# Altium schematic symbol library IC.SchLib: 163 symbols (part 1 of 2)
Pins are listed as number, name and electrical type; pins without a type are passive.

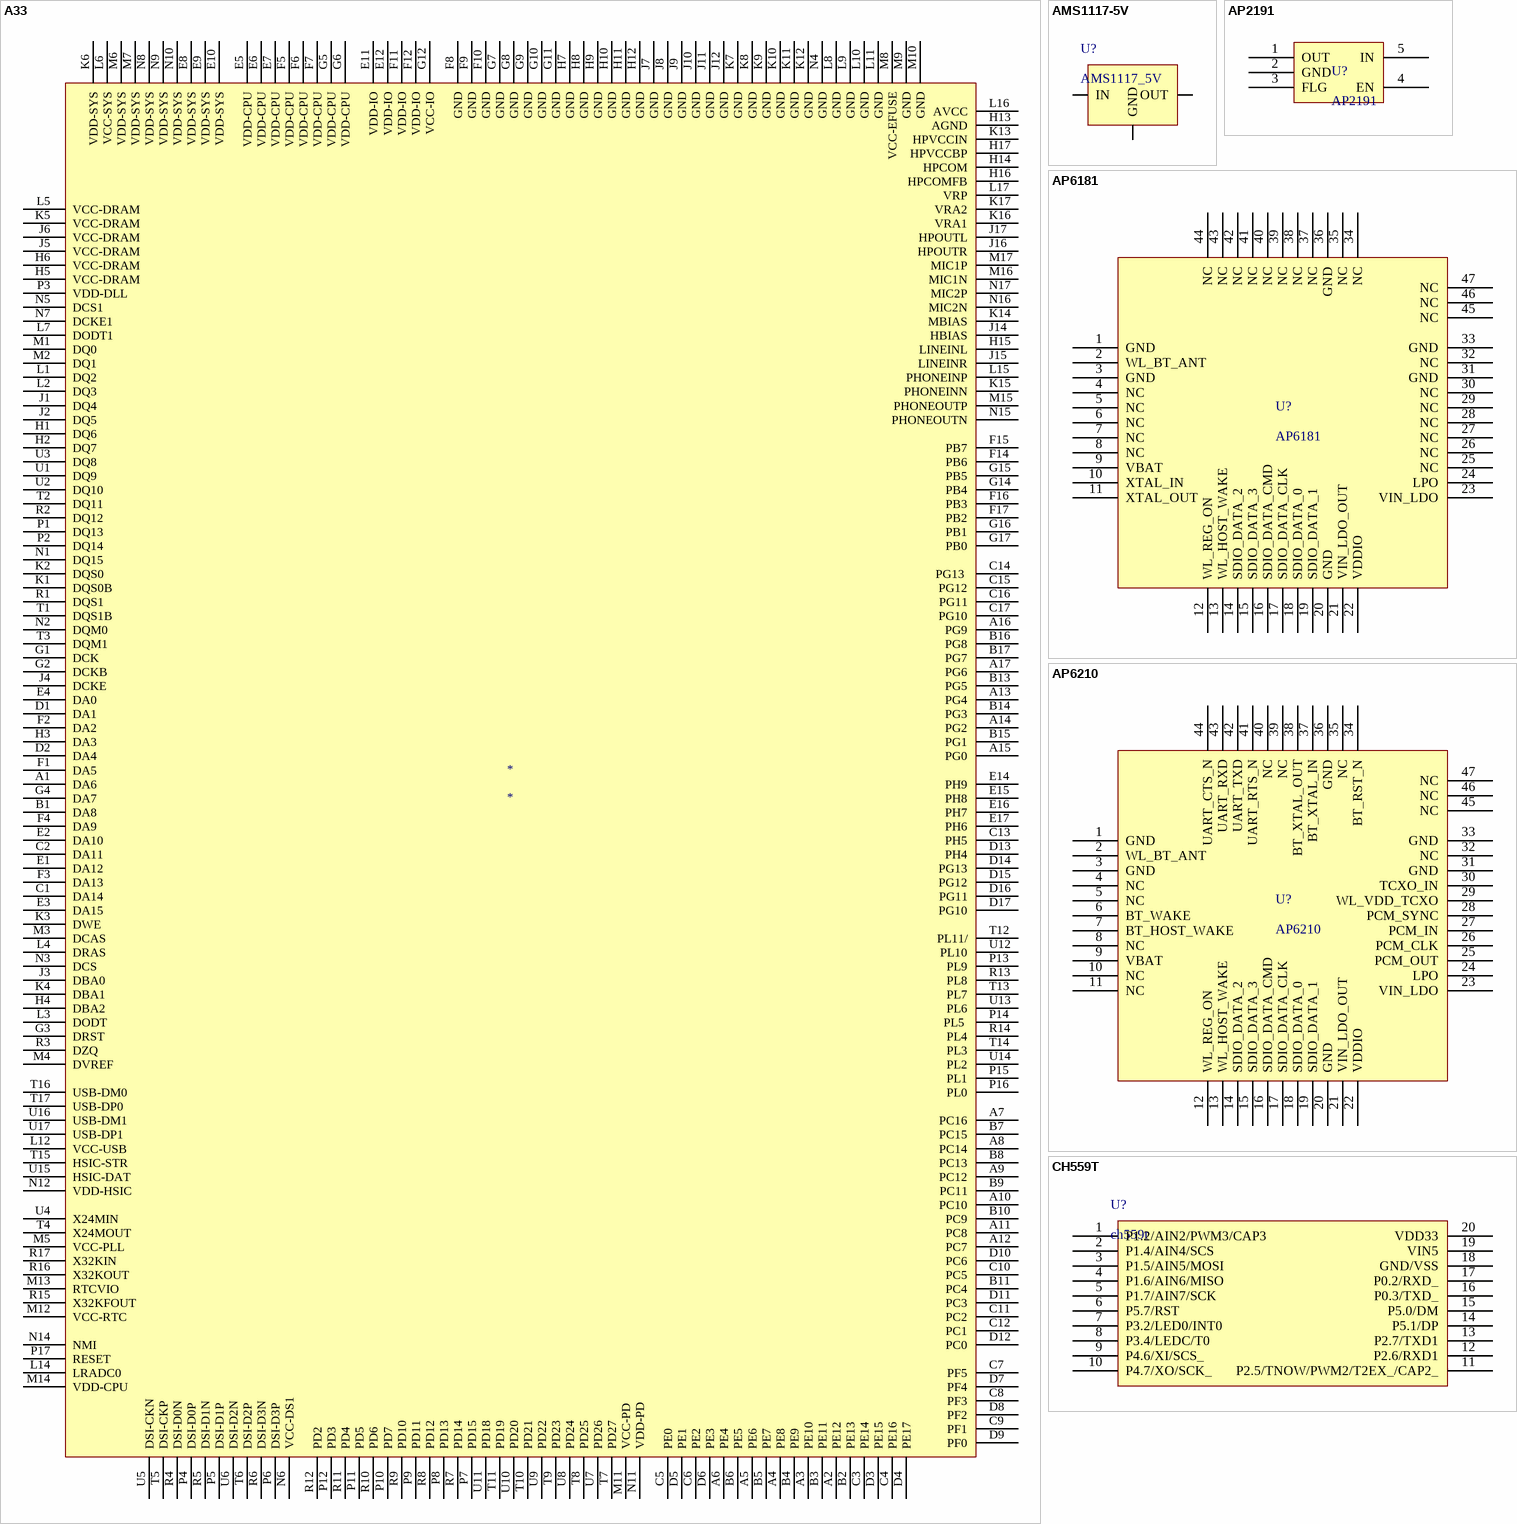
[diagram p0: symbols A33 to CH559T]

## A33
designator *
pins: A1 DA6, A2 PE12, A3 PE10, A4 PE8, A5 PE6, A6 PE4, A7 PC16, A8 PC14, A9 PC12, A10 PC10, A11 PC8, A12 PC7, A13 PG4, A14 PG2, A15 PG0, A16 PG9, A17 PG6, B1 DA8, B2 PE13, B3 PE11, B4 PE9, B5 PE7, B6 PE5, B7 PC15, B8 PC13, B9 PC11, B10 PC9, B11 PC4, B13 PG5, B14 PG3, B15 PG1, B16 PG8, B17 PG7, C1 DA14, C2 DA11, C3 PE14, C4 PE16, C5 PE0, C6 PE2, C7 PF5, C8 PF3, C9 PF1, C10 PC5, C11 PC2, C12 PC1, C13 PH5, C14 PG13 , C15 PG12, C16 PG11, C17 PG10, D1 DA1, D2 DA4, D3 PE15, D4 PE17, D5 PE1, D6 PE3, D7 PF4, D8 PF2, D9 PF0, D10 PC6, D11 PC3, D12 PC0, D13 PH4, D14 PG13, D15 PG12, D16 PG11, D17 PG10, E1 DA12, E2 DA10, E3 DA15, E4 DA0, E5 VDD-CPU, E6 VDD-CPU, E7 VDD-CPU, E8 VDD-SYS, E9 VDD-SYS, E10 VDD-SYS, E11 VDD-IO, E12 VDD-IO, E14 PH9, E15 PH8, E16 PH7, E17 PH6, F1 DA5, F2 DA2, F3 DA13, F4 DA9, F5 VDD-CPU, F6 VDD-CPU, F7 VDD-CPU, F8 GND, F9 GND, F10 GND, F11 VDD-IO, F12 VDD-IO, F14 PB6, F15 PB7, F16 PB3, F17 PB2, G1 DCK, G2 DCKB, G3 DRST, G4 DA7, G5 VDD-CPU, G6 VDD-CPU, G7 GND, G8 GND, G9 GND, G10 GND, G11 GND, G12 VCC-IO, G14 PB4, G15 PB5, G16 PB1, G17 PB0, H1 DQ6, H2 DQ7, H3 DA3, H4 DBA2, H5 VCC-DRAM, H6 VCC-DRAM, H7 GND, H8 GND, H9 GND, H10 GND, H11 GND, H12 GND, H13 AGND, H14 HPCOM, H15 LINEINL, H16 HPCOMFB, H17 HPVCCBP, J1 DQ4, J2 DQ5, J3 DBA0, J4 DCKE, J5 VCC-DRAM, J6 VCC-DRAM, J7 GND, J8 GND, J9 GND, J10 GND, J11 GND, J12 GND, J14 HBIAS, J15 LINEINR, J16 HPOUTR, J17 HPOUTL, K1 DQS0B, K2 DQS0, K3 DWE, K4 DBA1, K5 VCC-DRAM, K6 VDD-SYS, K7 GND, K8 GND, K9 GND, K10 GND, K11 GND, K12 GND, K13 HPVCCIN, K14 MBIAS, K15 PHONEINN, K16 VRA1, K17 VRA2, L1 DQ2, L2 DQ3, L3 DODT, L4 DRAS, L5 VCC-DRAM, L6 VCC-SYS, L7 DODT1, L8 GND, L9 GND, L10 GND, L11 GND, L12 VCC-USB, L14 LRADC0, L15 PHONEINP, L16 AVCC, L17 VRP, M1 DQ0, M2 DQ1, M3 DCAS, M4 DVREF, M5 VCC-PLL, M6 VDD-SYS, M7 VDD-SYS, M8 VCC-EFUSE, M9 GND, M10 GND, M11 VCC-PD, M12 VCC-RTC, M13 RTCVIO, M14 VDD-CPU, M15 PHONEOUTP, M16 MIC1N, M17 MIC1P, N1 DQ15, N2 DQM0, N3 DCS, N4 GND, N5 DCS1, N6 VCC-DS1, N7 DCKE1, N8 VDD-SYS, N9 VDD-SYS, N10 VDD-SYS, N11 VDD-PD, N12 VDD-HSIC, N14 NMI, N15 PHONEOUTN, N16 MIC2N, N17 MIC2P, P1 DQ13, P2 DQ14, P3 VDD-DLL, P4 DSI-D0P, P5 DSI-D1P, P6 DSI-D3P, P7 PD15, P8 PD13, P9 PD11, P10 PD7, P11 PD5, P12 PD3, P13 PL9, P14 PL5 , P15 PL1, P16 PL0, P17 RESET, R1 DQS1, R2 DQ12, R3 DZQ, R4 DSI-D0N, R5 DSI-D1N, R6 DSI-D3N, R7 PD14, R8 PD12, R9 PD10, R10 PD6, R11 PD4, R12 PD2, R13 PL8, R14 PL4, R15 X32KFOUT, R16 X32KOUT, R17 X32KIN, T1 DQS1B, T2 DQ11, T3 DQM1, T4 X24MOUT, T5 DSI-CKP, T6 DSI-D2P, T7 PD27, T8 PD25, T9 PD23, T10 PD21, T11 PD19, T12 PL11/, T13 PL7, T14 PL3, T15 HSIC-STR, T16 USB-DM0, T17 USB-DP0, U1 DQ9, U2 DQ10, U3 DQ8, U4 X24MIN, U5 DSI-CKN, U6 DSI-D2N, U7 PD26, U8 PD24, U9 PD22, U10 PD20, U11 PD18, U12 PL10, U13 PL6, U14 PL2, U15 HSIC-DAT, U16 USB-DM1, U17 USB-DP1

## AMS1117-5V
designator U?, comment AMS1117_5V
footprint SOT-223
pins: 1 GND, 2 OUT, 3 IN

## AP2191
designator U?
footprint U-SOT-23-5
pins: 1 OUT (power), 2 GND (power), 3 FLG (power), 4 EN (power), 5 IN (power)

## AP6181
designator U?
pins: 1 GND, 2 WL_BT_ANT, 3 GND, 4 NC, 5 NC, 6 NC, 7 NC, 8 NC, 9 VBAT, 10 XTAL_IN, 11 XTAL_OUT, 12 WL_REG_ON, 13 WL_HOST_WAKE, 14 SDIO_DATA_2, 15 SDIO_DATA_3, 16 SDIO_DATA_CMD, 17 SDIO_DATA_CLK, 18 SDIO_DATA_0, 19 SDIO_DATA_1, 20 GND, 21 VIN_LDO_OUT, 22 VDDIO, 23 VIN_LDO, 24 LPO, 25 NC, 26 NC, 27 NC, 28 NC, 29 NC, 30 NC, 31 GND, 32 NC, 33 GND, 34 NC, 35 NC, 36 GND, 37 NC, 38 NC, 39 NC, 40 NC, 41 NC, 42 NC, 43 NC, 44 NC, 45 NC, 46 NC, 47 NC

## AP6210
designator U?
footprint AP6210
pins: 1 GND, 2 WL_BT_ANT, 3 GND, 4 NC, 5 NC, 6 BT_WAKE, 7 BT_HOST_WAKE, 8 NC, 9 VBAT, 10 NC, 11 NC, 12 WL_REG_ON, 13 WL_HOST_WAKE, 14 SDIO_DATA_2, 15 SDIO_DATA_3, 16 SDIO_DATA_CMD, 17 SDIO_DATA_CLK, 18 SDIO_DATA_0, 19 SDIO_DATA_1, 20 GND, 21 VIN_LDO_OUT, 22 VDDIO, 23 VIN_LDO, 24 LPO, 25 PCM_OUT, 26 PCM_CLK, 27 PCM_IN, 28 PCM_SYNC, 29 WL_VDD_TCXO, 30 TCXO_IN, 31 GND, 32 NC, 33 GND, 34 BT_RST_N, 35 NC, 36 GND, 37 BT_XTAL_IN, 38 BT_XTAL_OUT, 39 NC, 40 NC, 41 UART_RTS_N, 42 UART_TXD, 43 UART_RXD, 44 UART_CTS_N, 45 NC, 46 NC, 47 NC

## CH559T
designator U?, comment ch559t
CH559T-20pin
footprint SSOP-20 (CH559T)
pins: 1 P1.2/AIN2/PWM3/CAP3, 2 P1.4/AIN4/SCS, 3 P1.5/AIN5/MOSI, 4 P1.6/AIN6/MISO, 5 P1.7/AIN7/SCK, 6 P5.7/RST, 7 P3.2/LED0/INT0, 8 P3.4/LEDC/T0, 9 P4.6/XI/SCS_, 10 P4.7/XO/SCK_, 11 P2.5/TNOW/PWM2/T2EX_/CAP2_, 12 P2.6/RXD1, 13 P2.7/TXD1, 14 P5.1/DP, 15 P5.0/DM, 16 P0.3/TXD_, 17 P0.2/RXD_, 18 GND/VSS, 19 VIN5, 20 VDD33

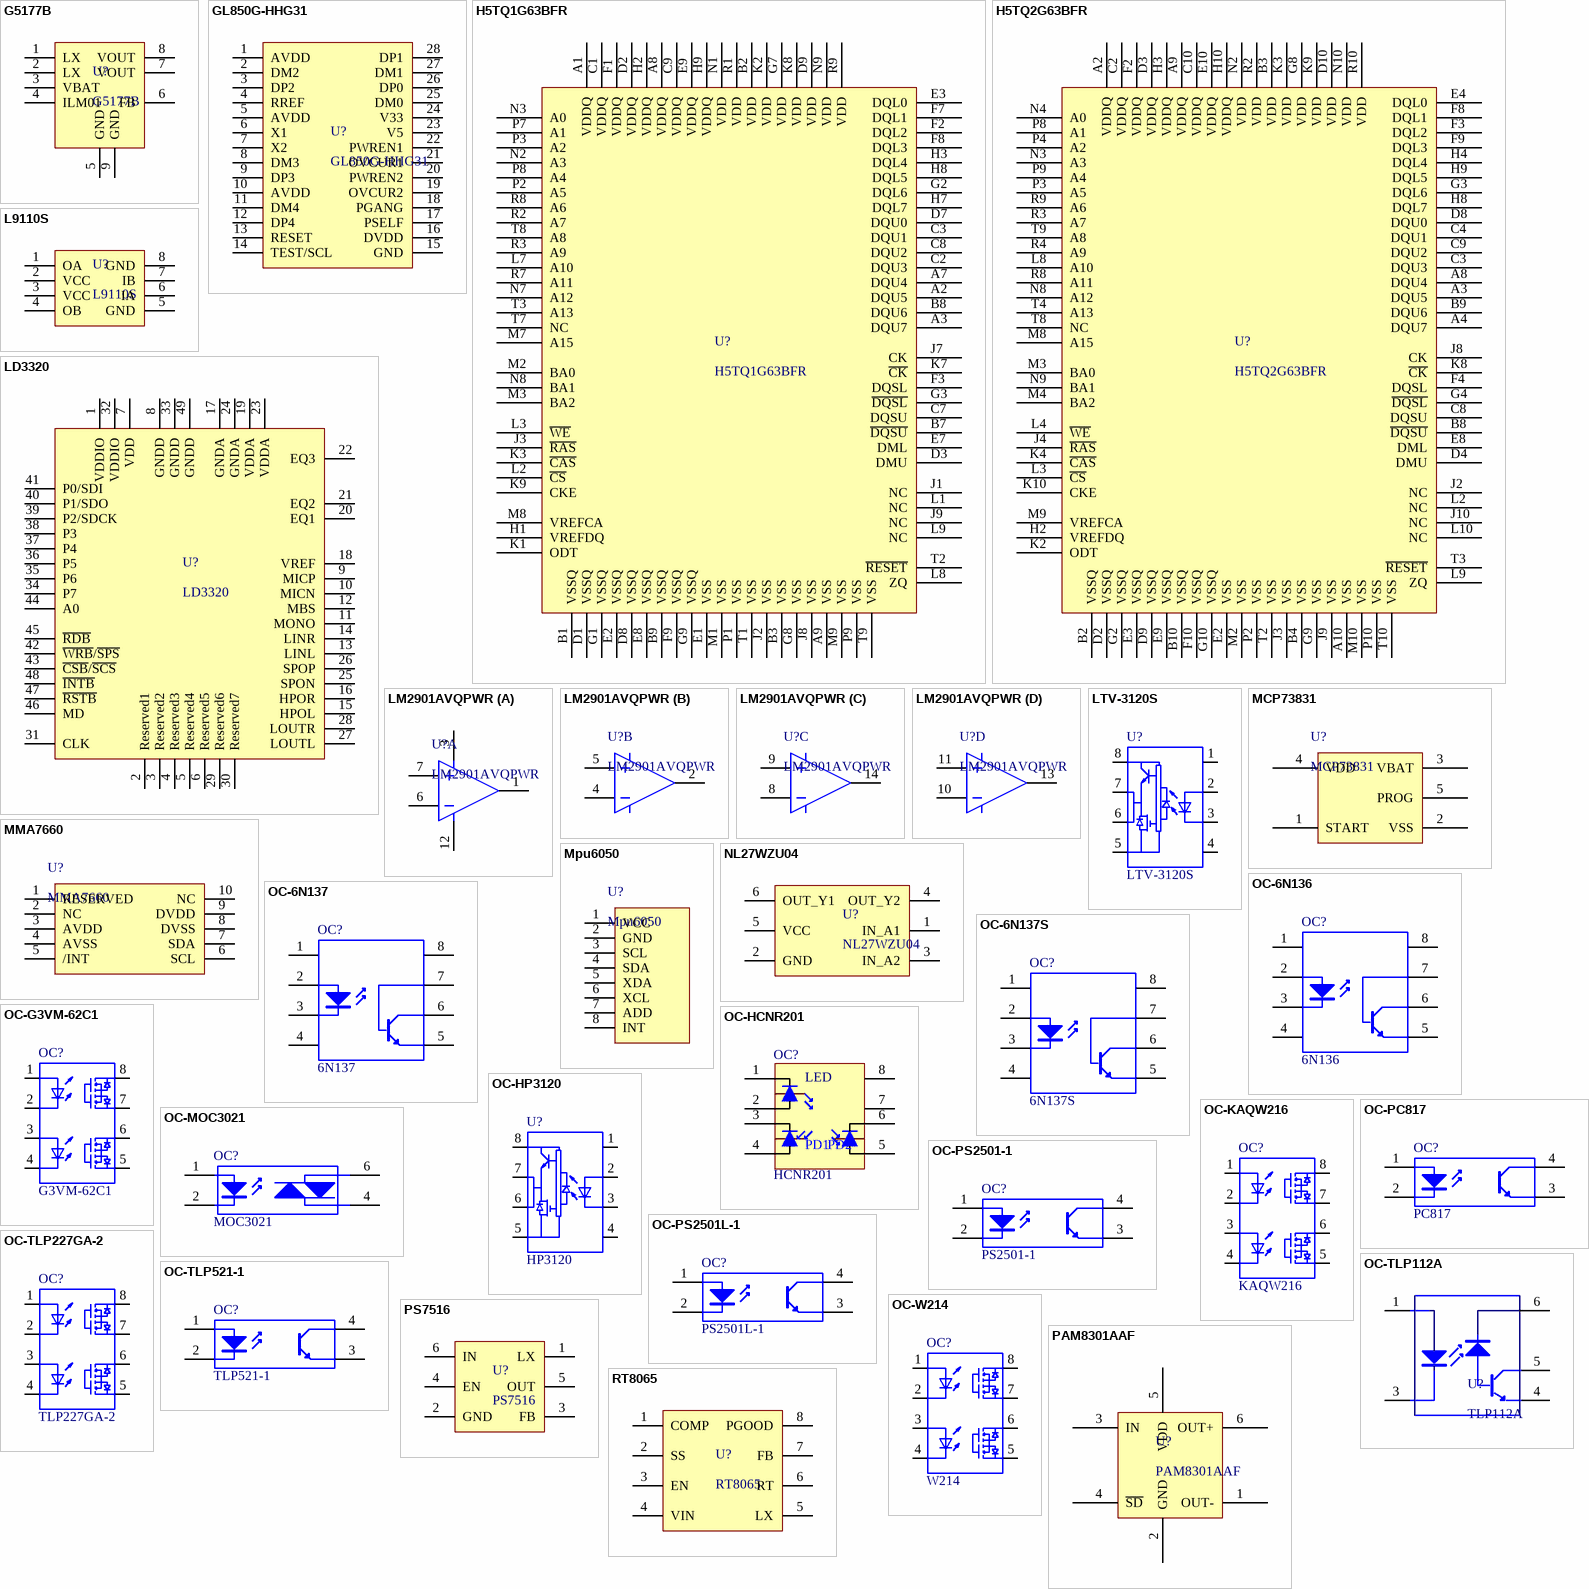
[diagram p1: symbols G5177B to RT8065]

## G5177B
designator U?
footprint U-SOP8(FD) (Footprint not found)
pins: 1 LX, 2 LX, 3 VBAT, 4 ILM01, 5 GND, 6 FB, 7 VOUT, 8 VOUT, 9 GND

## GL850G-HHG31
designator U?
pins: 1 AVDD, 2 DM2, 3 DP2, 4 RREF, 5 AVDD, 6 X1, 7 X2, 8 DM3, 9 DP3, 10 AVDD, 11 DM4, 12 DP4, 13 RESET, 14 TEST/SCL, 15 GND, 16 DVDD, 17 PSELF, 18 PGANG, 19 OVCUR2, 20 PWREN2, 21 OVCUR1, 22 PWREN1, 23 V5, 24 V33, 25 DM0, 26 DP0, 27 DM1, 28 DP1

## H5TQ1G63BFR
designator U?
pins: A1 VDDQ, A2 DQU5, A3 DQU7, A7 DQU4, A8 VDDQ, A9 VSS, B1 VSSQ, B2 VDD, B3 VSS, B7 ~{DQSU}, B8 DQU6, B9 VSSQ, C1 VDDQ, C2 DQU3, C3 DQU1, C7 DQSU, C8 DQU2, C9 VDDQ, D1 VSSQ, D2 VDDQ, D3 DMU, D7 DQU0, D8 VSSQ, D9 VDD, E1 VSS, E2 VSSQ, E3 DQL0, E7 DML, E8 VSSQ, E9 VDDQ, F1 VDDQ, F2 DQL2, F3 DQSL, F7 DQL1, F8 DQL3, F9 VSSQ, G1 VSSQ, G2 DQL6, G3 ~{DQSL}, G7 VDD, G8 VSS, G9 VSSQ, H1 VREFDQ, H2 VDDQ, H3 DQL4, H7 DQL7, H8 DQL5, H9 VDDQ, J1 NC, J2 VSS, J3 ~{RAS}, J7 CK, J8 VSS, J9 NC, K1 ODT, K2 VDD, K3 ~{CAS}, K7 ~{CK}, K8 VDD, K9 CKE, L1 NC, L2 ~{CS}, L3 ~{WE}, L7 A10, L8 ZQ, L9 NC, M1 VSS, M2 BA0, M3 BA2, M7 A15, M8 VREFCA, M9 VSS, N1 VDD, N2 A3, N3 A0, N7 A12, N8 BA1, N9 VDD, P1 VSS, P2 A5, P3 A2, P7 A1, P8 A4, P9 VSS, R1 VDD, R2 A7, R3 A9, R7 A11, R8 A6, R9 VDD, T1 VSS, T2 ~{RESET}, T3 A13, T7 NC, T8 A8, T9 VSS

## H5TQ2G63BFR
designator U?
pins: A2 VDDQ, A3 DQU5, A4 DQU7, A8 DQU4, A9 VDDQ, A10 VSS, B2 VSSQ, B3 VDD, B4 VSS, B8 ~{DQSU}, B9 DQU6, B10 VSSQ, C2 VDDQ, C3 DQU3, C4 DQU1, C8 DQSU, C9 DQU2, C10 VDDQ, D2 VSSQ, D3 VDDQ, D4 DMU, D8 DQU0, D9 VSSQ, D10 VDD, E2 VSS, E3 VSSQ, E4 DQL0, E8 DML, E9 VSSQ, E10 VDDQ, F2 VDDQ, F3 DQL2, F4 DQSL, F8 DQL1, F9 DQL3, F10 VSSQ, G2 VSSQ, G3 DQL6, G4 ~{DQSL}, G8 VDD, G9 VSS, G10 VSSQ, H2 VREFDQ, H3 VDDQ, H4 DQL4, H8 DQL7, H9 DQL5, H10 VDDQ, J2 NC, J3 VSS, J4 ~{RAS}, J8 CK, J9 VSS, J10 NC, K2 ODT, K3 VDD, K4 ~{CAS}, K8 ~{CK}, K9 VDD, K10 CKE, L2 NC, L3 ~{CS}, L4 ~{WE}, L8 A10, L9 ZQ, L10 NC, M2 VSS, M3 BA0, M4 BA2, M8 A15, M9 VREFCA, M10 VSS, N2 VDD, N3 A3, N4 A0, N8 A12, N9 BA1, N10 VDD, P2 VSS, P3 A5, P4 A2, P8 A1, P9 A4, P10 VSS, R2 VDD, R3 A7, R4 A9, R8 A11, R9 A6, R10 VDD, T2 VSS, T3 ~{RESET}, T4 A13, T8 NC, T9 A8, T10 VSS

## L9110S
designator U?
footprint U-SOP-8N
pins: 1 OA, 2 VCC, 3 VCC, 4 OB, 5 GND, 6 IA, 7 IB, 8 GND

## LD3320
designator U?
footprint U-QFN48
pins: 1 VDDIO, 2 Reserved1, 3 Reserved2, 4 Reserved3, 5 Reserved4, 6 Reserved5, 7 VDD, 8 GNDD, 9 MICP, 10 MICN, 11 MONO, 12 MBS, 13 LINL, 14 LINR, 15 HPOL, 16 HPOR, 17 GNDA, 18 VREF, 19 VDDA, 20 EQ1, 21 EQ2, 22 EQ3, 23 VDDA, 24 GNDA, 25 SPON, 26 SPOP, 27 LOUTL, 28 LOUTR, 29 Reserved6, 30 Reserved7, 31 CLK, 32 VDDIO, 33 GNDD, 34 P7, 35 P6, 36 P5, 37 P4, 38 P3, 39 P2/SDCK, 40 P1/SDO, 41 P0/SDI, 42 ~{WRB}/~{SPS}, 43 ~{CSB}/~{SCS}, 44 A0, 45 ~{RDB}, 46 MD, 47 ~{RSTB}, 48 ~{INTB}, 49 GNDD

## LM2901AVQPWR
designator U?
生产商: *; 规格型号: *; 供应商: *; 备注: *
footprint U-TSSOP14
part A pins: 1 1OUT, 3 VCC, 6 1IN-, 7 1IN+, 12 GND
part B pins: 2 2OUT, 4 2IN-, 5 2IN+
part C pins: 8 3IN-, 9 3IN+, 14 3OUT
part D pins: 10 4IN-, 11 4IN+, 13 4OUT

## LTV-3120S
designator U?
光耦-光耦; 生产: *; 供应: *; 规格: LTV-3120S
footprint SMD-8 (Footprint not found)
pins: 1, 2, 3, 4, 5, 6, 7, 8
1 alternate drawing of the same symbol

## MCP73831
designator U?
charge IC
footprint SOT23-5N (SOT23, 5-Leads, Body 2.90x2.70mm, Pitch 0.95mm, IPC Medium Density)
pins: 1 START, 2 VSS, 3 VBAT, 4 VDD, 5 PROG

## MMA7660
designator U?
IC-SENSOR-MMA7660FCT
pins: 1 RESERVED, 2 NC, 3 AVDD, 4 AVSS, 5 /INT, 6 SCL, 7 SDA, 8 DVSS, 9 DVDD, 10 NC

## Mpu6050
designator U?
pins: 1 VCC, 2 GND, 3 SCL, 4 SDA, 5 XDA, 6 XCL, 7 ADD, 8 INT

## NL27WZU04
designator U?
footprint U-TSOP-6
pins: 1 IN_A1, 2 GND, 3 IN_A2, 4 OUT_Y2, 5 VCC, 6 OUT_Y1

## OC-6N136
designator OC?, comment 6N136
光耦-光耦; 货品: 363005; 规格: 6N136; 备注: *; 生产: *; 供应: *
footprint OC-DIP-8N (OC-DIP8)
pins: 1, 2, 3, 4, 5, 6, 7, 8

## OC-6N137
designator OC?, comment 6N137
光耦-光耦; 货品: 363006; 规格: 6N137; 备注: *; 生产: *; 供应: *
footprint OC-DIP-8N (OC-DIP8)
pins: 1, 2, 3, 4, 5, 6, 7, 8

## OC-6N137S
designator OC?, comment 6N137S
光耦-光耦; 货品: 363012; 备注: *; 生产: *; 供应: *
footprint OC-LBT-8N (Lead Bending Type)
pins: 1, 2, 3, 4, 5, 6, 7, 8

## OC-G3VM-62C1
designator OC?, comment G3VM-62C1
光耦-光耦继电器; 货品: 342004; 备注: *; 规格: G3VM-62C1; 生产: *; 供应: *
footprint OC-DIP-8N (OC-DIP8)
pins: 1, 2, 3, 4, 5, 6, 7, 8
1 alternate drawing of the same symbol

## OC-HCNR201
designator OC?, comment HCNR201
光耦-线性光耦; 货品: 363002; 备注: *; 生产: *; 供应: *; 规格: HCNR201
footprint OC-DIP-8W (OC-DIP8/W)
pins: 1, 2, 3, 4, 5, 6, 7, 8
text: LED; PD1; PD2

## OC-HP3120
designator U?, comment HP3120
光耦-光耦; 货品: 363001; 生产: *; 供应: *; 规格: HP3120
footprint OC-DIP-8N (OC-DIP8)
pins: 1, 2, 3, 4, 5, 6, 7, 8
1 alternate drawing of the same symbol

## OC-KAQW216
designator OC?, comment KAQW216
光耦-光耦继电器; 货品: 362027; 生产: *; 备注: *; 规格: KAQW216; 供应: *
footprint OC-DIP-8N (OC-DIP8)
pins: 1, 2, 3, 4, 5, 6, 7, 8
1 alternate drawing of the same symbol

## OC-MOC3021
designator OC?, comment MOC3021
光耦-光耦; 备注: *; 供应: *; 生产: *; 规格: MOC3021
footprint OC-DIP-6N (OC-DIP6)
pins: 1 A, 2 K, 4, 6

## OC-PC817
designator OC?, comment PC817
光耦-光耦; 货品: 342011; 备注: *; 供应: *; 生产: *
footprint OC-DIP-4N (OC-DIP4)
pins: 1 A, 2 K, 3 E, 4 C

## OC-PS2501-1
designator OC?, comment PS2501-1
光耦-光耦; 货品: 363007; 备注: *; 供应: *; 生产: *; 规格: PS2501-1
footprint OC-DIP-4N (OC-DIP4)
pins: 1 A, 2 K, 3 E, 4 C

## OC-PS2501L-1
designator OC?, comment PS2501L-1
光耦-光耦; 货品: 363009; 备注: *; 生产: *; 供应: *
footprint OC-LBT-4N (Lead Bending Type)
pins: 1 A, 2 K, 3 E, 4 C

## OC-TLP112A
designator U?, comment TLP112A
光耦-高速光耦; 货品: 341025; 备注: *; 供应: *; 规格: TLP112A; 生产: *
footprint OC-TO-5
pins: 1 A, 3 K, 4 E, 5 C, 6 5

## OC-TLP227GA-2
designator OC?, comment TLP227GA-2
光耦-光耦继电器; 货品: 363008; 生产: *; 备注: *; 规格: TLP227GA-2; 供应: *
footprint OC-DIP-8N (OC-DIP8)
footprint OC-DIP-8N - 9100SIM (OC-DIP8)
pins: 1, 2, 3, 4, 5, 6, 7, 8
1 alternate drawing of the same symbol

## OC-TLP521-1
designator OC?, comment TLP521-1
光耦-光耦; 货品: 363003; 备注: *; 规格: TLP521-1; 生产: *; 供应: *
footprint OC-DIP-4N (OC-DIP4)
pins: 1 A, 2 K, 3 E, 4 C

## OC-W214
designator OC?, comment W214
光耦-光耦继电器; 货品: 363004; 生产: *; 备注: *; 规格: W214; 供应: *
footprint OC-DIP-8N (OC-DIP8)
pins: 1, 2, 3, 4, 5, 6, 7, 8
1 alternate drawing of the same symbol

## PAM8301AAF
designator U?
footprint U-TSOT26
pins: 1 OUT-, 2 GND, 3 IN, 4 ~{SD}, 5 VDD, 6 OUT+

## PS7516
designator U?
footprint U-SOT-23-6
pins: 1 LX, 2 GND, 3 FB, 4 EN, 5 OUT, 6 IN

## RT8065
designator U?
footprint SOP-8 (Footprint not found)
footprint U-SOP-8N
pins: 1 COMP, 2 SS, 3 EN, 4 VIN, 5 LX, 6 RT, 7 FB, 8 PGOOD

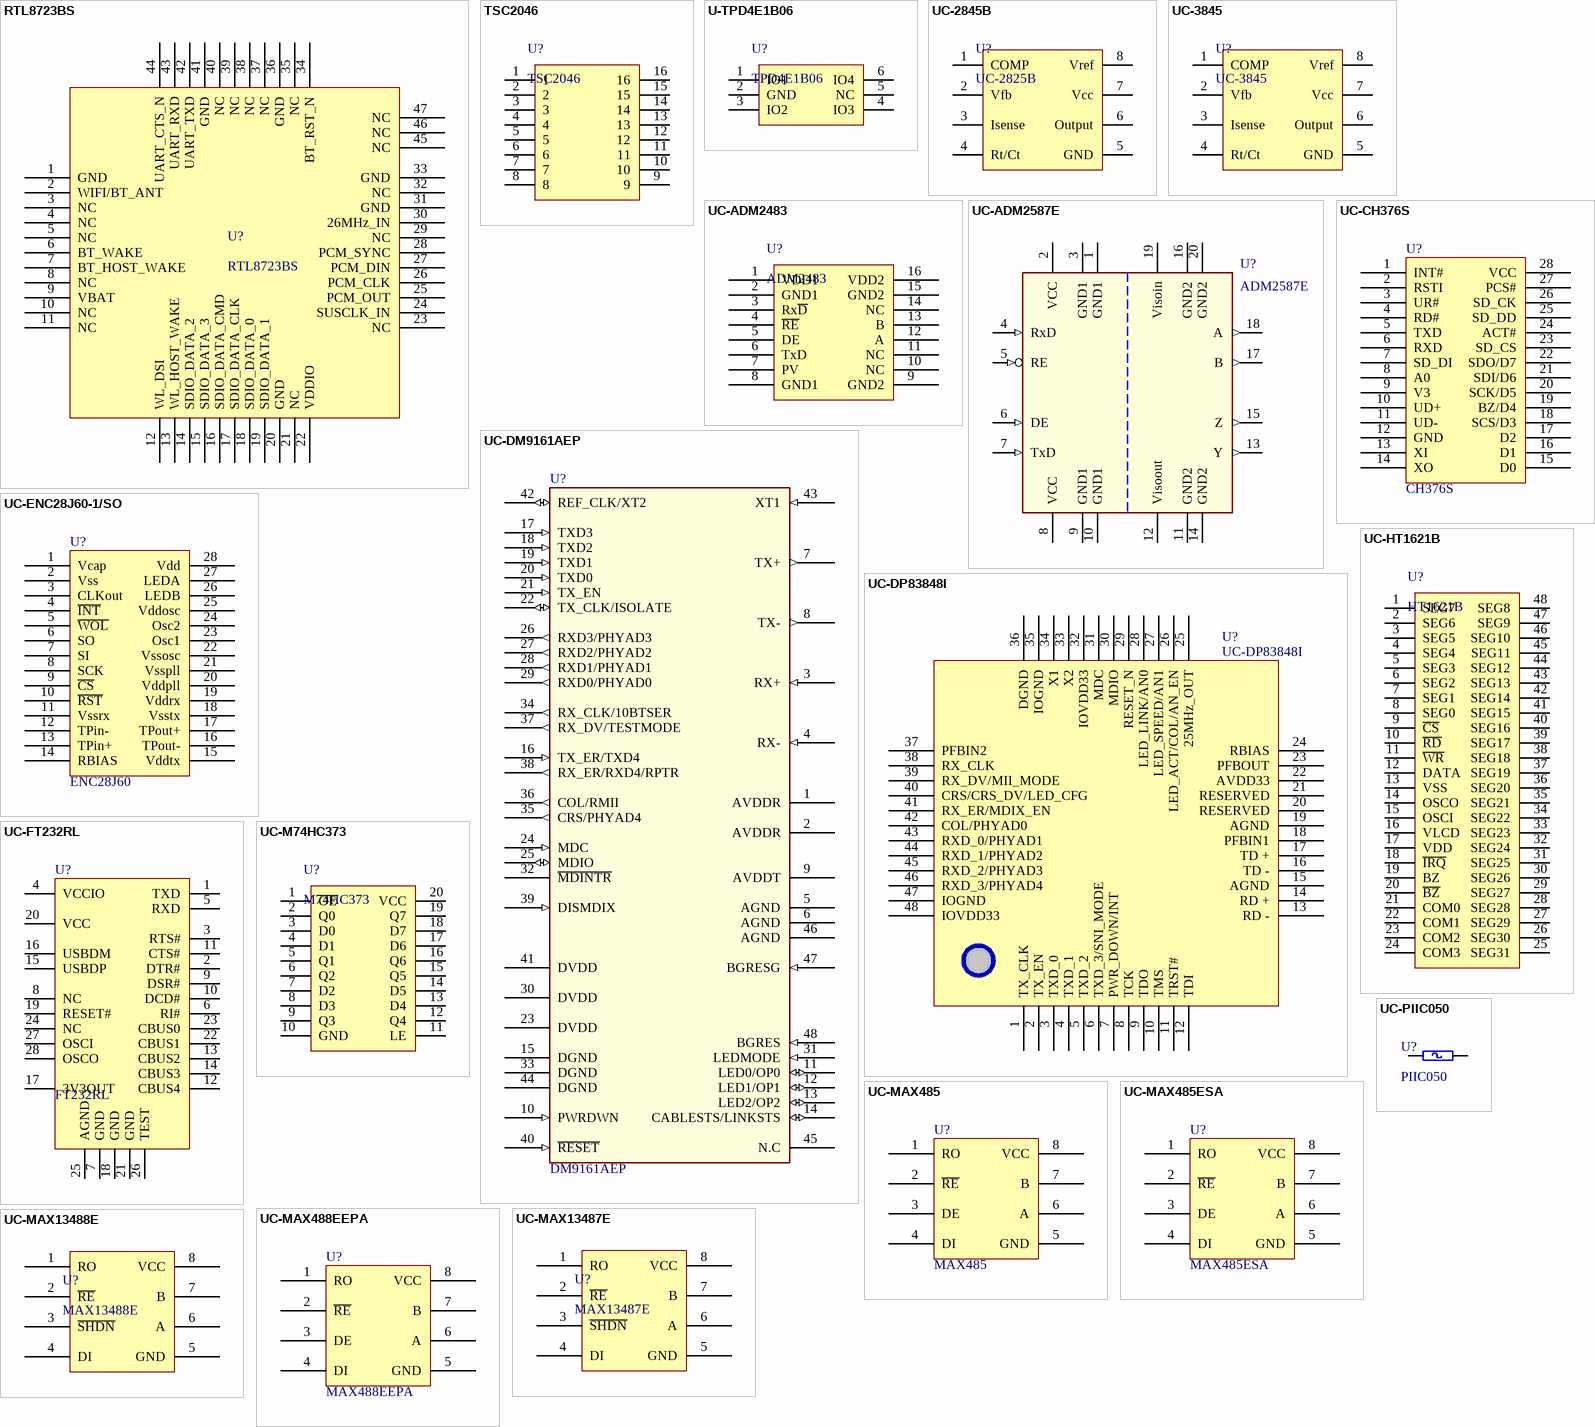
[diagram p2: symbols RTL8723BS to UC-PIIC050]

## RTL8723BS
designator U?
pins: 1 GND, 2 WIFI/BT_ANT, 3 NC, 4 NC, 5 NC, 6 BT_WAKE, 7 BT_HOST_WAKE, 8 NC, 9 VBAT, 10 NC, 11 NC, 12 WL_DSI, 13 WL_HOST_WAKE, 14 SDIO_DATA_2, 15 SDIO_DATA_3, 16 SDIO_DATA_CMD, 17 SDIO_DATA_CLK, 18 SDIO_DATA_0, 19 SDIO_DATA_1, 20 GND, 21 NC, 22 VDDIO, 23 NC, 24 SUSCLK_IN, 25 PCM_OUT, 26 PCM_CLK, 27 PCM_DIN, 28 PCM_SYNC, 29 NC, 30 26MHz_IN, 31 GND, 32 NC, 33 GND, 34 BT_RST_N, 35 NC, 36 GND, 37 NC, 38 NC, 39 NC, 40 NC, 41 GND, 42 UART_TXD, 43 UART_RXD, 44 UART_CTS_N, 45 NC, 46 NC, 47 NC

## TSC2046
designator U?
pins: 1, 2, 3, 4, 5, 6, 7, 8, 9, 10, 11, 12, 13, 14, 15, 16

## U-TPD4E1B06
designator U?, comment TPD4E1B06
ESD-防静电干扰
footprint U-ESD-DRL-SOTFL50P160X60-6N (SOTFL, 6-Leads, Body 1.60x1.60mm, Pitch 0.50mm, IPC Medium Density)
pins: 1 IO1, 2 GND, 3 IO2, 4 IO3, 5 NC, 6 IO4

## UC-2845B
designator U?, comment UC-2825B
货品?: *; 生产商: *; 规格?: *; 供应商: *; 备注: *
footprint U-SOP-8N
pins: 1 COMP, 2 Vfb, 3 Isense, 4 Rt/Ct, 5 GND, 6 Output, 7 Vcc, 8 Vref

## UC-3845
designator U?
货品?: *; 生产商: *; 规格?: *; 供应商: *; 备注: *
footprint U-SOP-8N
pins: 1 COMP, 2 Vfb, 3 Isense, 4 Rt/Ct, 5 GND, 6 Output, 7 Vcc, 8 Vref

## UC-ADM2483
designator U?, comment ADM2483
集成电路-通信 隔离485; 货品?: 341060
footprint U-SOIC-16N (SOIC, 16-Leads, Body 10.5x7.5mm (max), Pitch 1.27mm, IPC Medium Density)
footprint U-SOIC-16N
pins: 1 VDD1, 2 GND1, 3 Rx~{D}, 4 ~{RE}, 5 DE, 6 TxD, 7 PV, 8 GND1, 9 GND2, 10 NC, 11 NC, 12 A, 13 B, 14 NC, 15 GND2, 16 VDD2

## UC-ADM2587E
designator U?, comment ADM2587E
集成电路-通信; 生产商: AD; 规格?: UC-ADM2587E; 货品?: 341053; 供应商: *; 备注: *
footprint U-SOP-20 (Footprint not found)
pins: 1 GND1 (power), 2 VCC (power), 3 GND1 (power), 4 RxD (in), 5 RE (in), 6 DE (in), 7 TxD (in), 8 VCC (power), 9 GND1 (power), 10 GND1 (power), 11 GND2 (power), 12 Visoout (power), 13 Y (out), 14 GND2 (power), 15 Z (out), 16 GND2 (power), 17 B (out), 18 A (out), 19 Visoin (power), 20 GND2 (power)

## UC-CH376S
designator U?, comment CH376S
集成电路-通信; 货品?: 341054
footprint U-SOP-28
pins: 1 INT#, 2 RSTI, 3 UR#, 4 RD#, 5 TXD, 6 RXD, 7 SD_DI, 8 A0, 9 V3, 10 UD+, 11 UD-, 12 GND, 13 XI, 14 XO, 15 D0, 16 D1, 17 D2, 18 SCS/D3, 19 BZ/D4, 20 SCK/D5, 21 SDI/D6, 22 SDO/D7, 23 SD_CS, 24 ACT#, 25 SD_DD, 26 SD_CK, 27 PCS#, 28 VCC

## UC-DM9161AEP
designator U?, comment DM9161AEP
集成电路-通信; 生产商: *; 供应商: *; 规格?: DM9161AEP; 货品?: *
footprint U-LQFP-48 (Footprint not found)
pins: 1 AVDDR (power), 2 AVDDR (power), 3 RX+ (in), 4 RX- (in), 5 AGND (power), 6 AGND (power), 7 TX+ (out), 8 TX- (out), 9 AVDDT (power), 10 PWRDWN (in), 11 LED0/OP0 (io), 12 LED1/OP1 (io), 13 LED2/OP2 (io), 14 CABLESTS/LINKSTS (io), 15 DGND (power), 16 TX_ER/TXD4 (in), 17 TXD3 (in), 18 TXD2 (in), 19 TXD1 (in), 20 TXD0 (in), 21 TX_EN (in), 22 TX_CLK/ISOLATE (io), 23 DVDD (power), 24 MDC (in), 25 MDIO (io), 26 RXD3/PHYAD3 (out), 27 RXD2/PHYAD2 (out), 28 RXD1/PHYAD1 (out), 29 RXD0/PHYAD0 (out), 30 DVDD (power), 31 LEDMODE (in), 32 ~{MDINTR} (hiz), 33 DGND (power), 34 RX_CLK/10BTSER (out), 35 CRS/PHYAD4 (out), 36 COL/RMII (out), 37 RX_DV/TESTMODE (out), 38 RX_ER/RXD4/RPTR (out), 39 DISMDIX (in), 40 ~{RESET} (in), 41 DVDD (power), 42 REF_CLK/XT2 (io), 43 XT1 (in), 44 DGND (power), 45 N.C, 46 AGND (power), 47 BGRESG (in), 48 BGRES (in)

## UC-DP83848I
designator U?
集成电路-通信; 货品?: 341017
footprint U-LQFP-48
footprint U-LQFP-48
pins: 1 TX_CLK, 2 TX_EN, 3 TXD_0, 4 TXD_1, 5 TXD_2, 6 TXD_3/SNI_MODE, 7 PWR_DOWN/INT, 8 TCK, 9 TDO, 10 TMS, 11 TRST#, 12 TDI, 13 RD -, 14 RD +, 15 AGND, 16 TD -, 17 TD +, 18 PFBIN1, 19 AGND, 20 RESERVED, 21 RESERVED, 22 AVDD33, 23 PFBOUT, 24 RBIAS, 25 25MHz_OUT, 26 LED_ACT/COL/AN_EN, 27 LED_SPEED/AN1, 28 LED_LINK/AN0, 29 RESET_N, 30 MDIO, 31 MDC, 32 IOVDD33, 33 X2, 34 X1, 35 IOGND, 36 DGND, 37 PFBIN2, 38 RX_CLK, 39 RX_DV/MII_MODE, 40 CRS/CRS_DV/LED_CFG, 41 RX_ER/MDIX_EN, 42 COL/PHYAD0, 43 RXD_0/PHYAD1, 44 RXD_1/PHYAD2, 45 RXD_2/PHYAD3, 46 RXD_3/PHYAD4, 47 IOGND, 48 IOVDD33
2 alternate drawings of the same symbol

## UC-ENC28J60-1/SO
designator U?, comment ENC28J60
集成电路-通信; 货品?: 341013; Rule: PcbType=ProtelPcb
footprint U-SOP-28 (Footprint not found)
pins: 1 Vcap, 2 Vss, 3 CLKout, 4 ~{INT}, 5 ~{WOL}, 6 SO, 7 SI, 8 SCK, 9 ~{CS}, 10 ~{RST}, 11 Vssrx, 12 TPin-, 13 TPin+, 14 RBIAS, 15 Vddtx, 16 TPout-, 17 TPout+, 18 Vsstx, 19 Vddrx, 20 Vddpll, 21 Vsspll, 22 Vssosc, 23 Osc1, 24 Osc2, 25 Vddosc, 26 LEDB, 27 LEDA, 28 Vdd

## UC-FT232RL
designator U?, comment FT232RL
集成电路-通信; 货品?: 341003
footprint U-SSOP28 (Footprint not found)
pins: 1 TXD, 2 DTR#, 3 RTS#, 4 VCCIO, 5 RXD, 6 RI#, 7 GND, 8 NC, 9 DSR#, 10 DCD#, 11 CTS#, 12 CBUS4, 13 CBUS2, 14 CBUS3, 15 USBDP, 16 USBDM, 17 3V3OUT, 18 GND, 19 RESET#, 20 VCC, 21 GND, 22 CBUS1, 23 CBUS0, 24 NC, 25 AGND, 26 TEST, 27 OSCI, 28 OSCO

## UC-HT1621B
designator U?, comment HT1621B
集成电路-数字; 生产商: HOLTEK; 备注: *; 供应商: *; 规格?: HT1621B
footprint U-SOP-48
pins: 1 SEG7, 2 SEG6, 3 SEG5, 4 SEG4, 5 SEG3, 6 SEG2, 7 SEG1, 8 SEG0, 9 ~{CS}, 10 ~{RD}, 11 ~{WR}, 12 DATA, 13 VSS, 14 OSCO, 15 OSCI, 16 VLCD, 17 VDD, 18 ~{IRQ}, 19 BZ, 20 ~{BZ}, 21 COM0, 22 COM1, 23 COM2, 24 COM3, 25 SEG31, 26 SEG30, 27 SEG29, 28 SEG28, 29 SEG27, 30 SEG26, 31 SEG25, 32 SEG24, 33 SEG23, 34 SEG22, 35 SEG21, 36 SEG20, 37 SEG19, 38 SEG18, 39 SEG17, 40 SEG16, 41 SEG15, 42 SEG14, 43 SEG13, 44 SEG12, 45 SEG11, 46 SEG10, 47 SEG9, 48 SEG8

## UC-M74HC373
designator U?, comment M74HC373
集成电路-数字; 备注: *; 供应商: *; 规格?: M74HC373
footprint U-SOP-20
pins: 1 ~{OE}, 2 Q0, 3 D0, 4 D1, 5 Q1, 6 Q2, 7 D2, 8 D3, 9 Q3, 10 GND, 11 LE, 12 Q4, 13 D4, 14 D5, 15 Q5, 16 Q6, 17 D6, 18 D7, 19 Q7, 20 VCC

## UC-MAX485
designator U?, comment MAX485
集成电路-通信; 货品?: 341018
footprint U-DIP-8N (Footprint not found)
pins: 1 RO, 2 ~{RE}, 3 DE, 4 DI, 5 GND, 6 A, 7 B, 8 VCC

## UC-MAX485ESA
designator U?, comment MAX485ESA
集成电路-通信; 货品?: 341019
footprint U-SOP-8N
pins: 1 RO, 2 ~{RE}, 3 DE, 4 DI, 5 GND, 6 A, 7 B, 8 VCC

## UC-MAX488EEPA
designator U?, comment MAX488EEPA
集成电路-通信; 货品?: 342008
footprint U-DIP-8N
pins: 1 RO, 2 ~{RE}, 3 DE, 4 DI, 5 GND, 6 A, 7 B, 8 VCC

## UC-MAX13487E
designator U?, comment MAX13487E
集成电路-通信
footprint U-SOP-8N
pins: 1 RO, 2 ~{RE}, 3 ~{SHDN}, 4 DI, 5 GND, 6 A, 7 B, 8 VCC

## UC-MAX13488E
designator U?, comment MAX13488E
集成电路-通信
footprint U-SOP-8N
pins: 1 RO, 2 ~{RE}, 3 ~{SHDN}, 4 DI, 5 GND, 6 A, 7 B, 8 VCC

## UC-PIIC050
designator U?, comment PIIC050
贴片保险; 货品?: 341039
footprint U-0805
pins: 1, 2

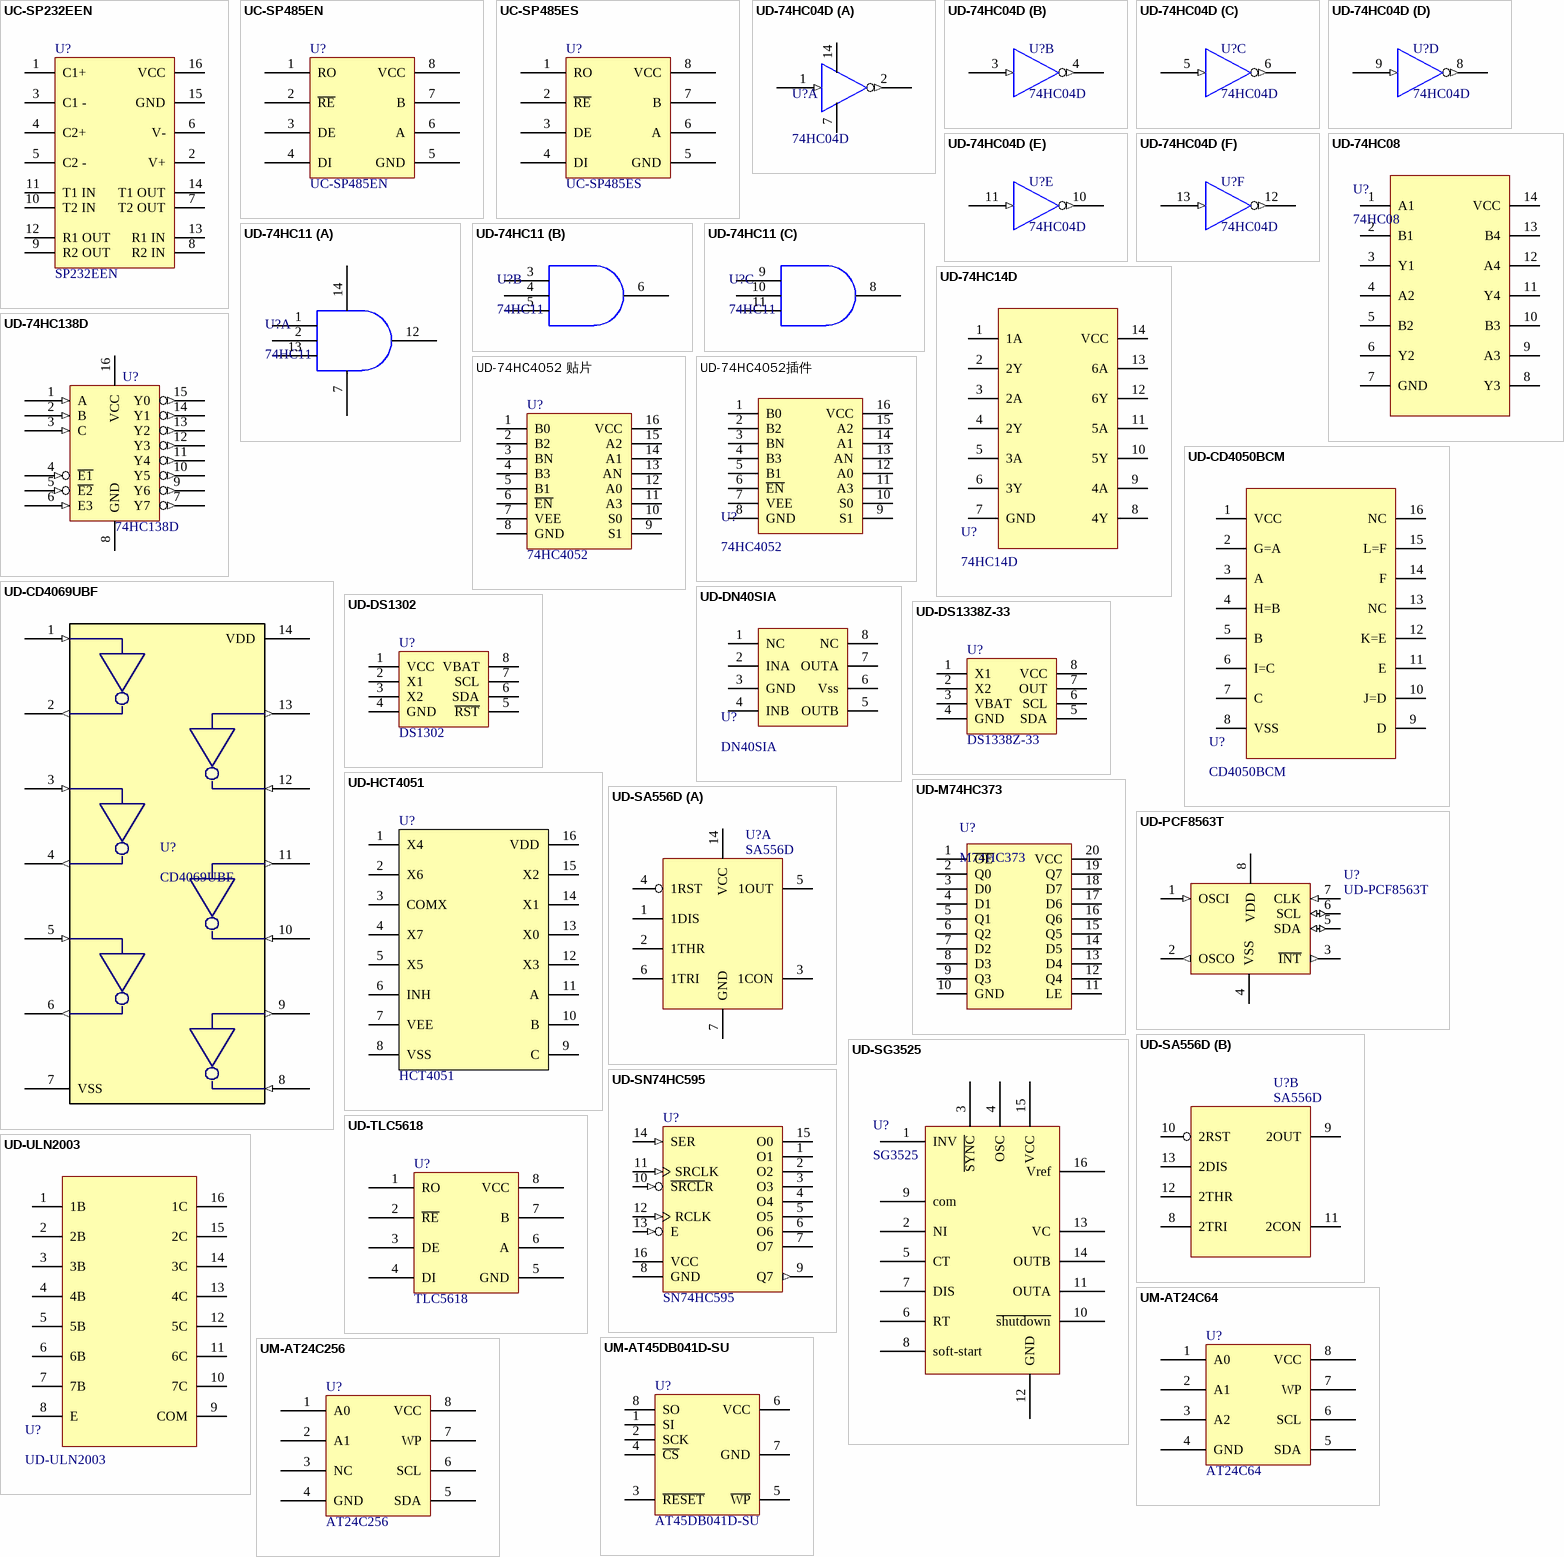
[diagram p3: symbols UC-SP232EEN to UM-AT45DB041D-SU]

## UC-SP232EEN
designator U?, comment SP232EEN
集成电路-通信; 货品?: 341002
footprint U-SOP-16N (Footprint not found)
pins: 1 C1+, 2 V+, 3 C1 -, 4 C2+, 5 C2 -, 6 V-, 7 T2 OUT, 8 R2 IN, 9 R2 OUT, 10 T2 IN, 11 T1 IN, 12 R1 OUT, 13 R1 IN, 14 T1 OUT, 15 GND, 16 VCC

## UC-SP485EN
designator U?
集成电路-通信; 货品?: 341022
footprint U-SOP-8N
pins: 1 RO, 2 ~{RE}, 3 DE, 4 DI, 5 GND, 6 A, 7 B, 8 VCC

## UC-SP485ES
designator U?
集成电路-通信; 货品?: 342018
footprint U-DIP-8N
pins: 1 RO, 2 ~{RE}, 3 DE, 4 DI, 5 GND, 6 A, 7 B, 8 VCC

## UD-74HC04D
designator U?, comment 74HC04D
集成电路-驱动; 生产商: *; 供应商: *; 备注: *; 规格?: 74HC04D
footprint U-SOP-14N
part A pins: 1 (in), 2 (out), 7 GND (power) hidden to GND, 7, 14 VCC (power) hidden to VCC, 14
part B pins: 3 (in), 4 (out)
part C pins: 5 (in), 6 (out)
part D pins: 8 (out), 9 (in)
part E pins: 10 (out), 11 (in)
part F pins: 12 (out), 13 (in)

## UD-74HC08
designator U?, comment 74HC08
pins: 1 A1, 2 B1, 3 Y1, 4 A2, 5 B2, 6 Y2, 7 GND, 8 Y3, 9 A3, 10 B3, 11 Y4, 12 A4, 13 B4, 14 VCC

## UD-74HC11
designator U?, comment 74HC11
货品?: 341113
footprint U-SOP-14N
part A pins: 1, 2, 7, 12, 13, 14
part B pins: 3, 4, 5, 6
part C pins: 8, 9, 10, 11

## UD-74HC14D
designator U?, comment 74HC14D
集成电路-数字; 货品?: 341028
footprint U-SOP-14N
pins: 1 1A, 2 2Y, 3 2A, 4 2Y, 5 3A, 6 3Y, 7 GND, 8 4Y, 9 4A, 10 5Y, 11 5A, 12 6Y, 13 6A, 14 VCC

## UD-74HC138D
designator U?, comment 74HC138D
集成电路-驱动; 货品?: 341076; 备注: *; 生产商: *; 供应商: *; 规格?: 74HC138D
footprint U-SOP-16N
pins: 1 A (in), 2 B (in), 3 C (in), 4 ~{E1} (in), 5 ~{E2} (in), 6 E3 (in), 7 Y7 (out), 8 GND (power), 9 Y6 (out), 10 Y5 (out), 11 Y4 (out), 12 Y3 (out), 13 Y2 (out), 14 Y1 (out), 15 Y0 (out), 16 VCC (power)

## UD-74HC4052 贴片
designator U?, comment 74HC4052
集成电路-数字; 货品?: 341051
footprint U-SOP-16N
pins: 1 B0, 2 B2, 3 BN, 4 B3, 5 B1, 6 ~{EN}, 7 VEE, 8 GND, 9 S1, 10 S0, 11 A3, 12 A0, 13 AN, 14 A1, 15 A2, 16 VCC
1 alternate drawing of the same symbol

## UD-74HC4052插件
designator U?, comment 74HC4052
集成电路-数字; 货品?: 342005
footprint U-DIP-16N
pins: 1 B0, 2 B2, 3 BN, 4 B3, 5 B1, 6 ~{EN}, 7 VEE, 8 GND, 9 S1, 10 S0, 11 A3, 12 A0, 13 AN, 14 A1, 15 A2, 16 VCC

## UD-CD4050BCM
designator U?, comment CD4050BCM
集成电路-数字; 货品?: 341057
footprint U-SOP-16N
pins: 1 VCC, 2 G=A, 3 A, 4 H=B, 5 B, 6 I=C, 7 C, 8 VSS, 9 D, 10 J=D, 11 E, 12 K=E, 13 NC, 14 F, 15 L=F, 16 NC

## UD-CD4069UBF
designator U?, comment CD4069UBF
集成电路-数字; 货品?: 341055
footprint U-SOP-14N (Footprint not found)
pins: 1 (in), 2 (out), 3 (in), 4 (out), 5 (in), 6 (out), 7 VSS, 8 (in), 9 (out), 10 (in), 11 (out), 12 (in), 13 (out), 14 VDD

## UD-DN40SIA
designator U?, comment DN40SIA
集成电路-数字; 货品?: 341027
footprint U-SOP-8M
pins: 1 NC, 2 INA, 3 GND, 4 INB, 5 OUTB, 6 Vss, 7 OUTA, 8 NC

## UD-DS1302
designator U?, comment DS1302
集成电路-数字; 货品?: 341007
footprint U-SOP-8N
pins: 1 VCC, 2 X1, 3 X2, 4 GND, 5 ~{RST}, 6 SDA, 7 SCL, 8 VBAT
1 alternate drawing of the same symbol

## UD-DS1338Z-33
designator U?, comment DS1338Z-33
集成电路-数字; 货品?: 341081; 备注: *; 供应商: *; 规格?: *
footprint U-SOP-8N
pins: 1 X1, 2 X2, 3 VBAT, 4 GND, 5 SDA, 6 SCL, 7 OUT, 8 VCC
1 alternate drawing of the same symbol

## UD-HCT4051
designator U?, comment HCT4051
集成电路-数字; 货品?: 341047
footprint U-SOP-16N
pins: 1 X4, 2 X6, 3 COMX, 4 X7, 5 X5, 6 INH, 7 VEE, 8 VSS, 9 C, 10 B, 11 A, 12 X3, 13 X0, 14 X1, 15 X2, 16 VDD

## UD-M74HC373
designator U?, comment M74HC373
集成电路-数字; 备注: *; 供应商: *; 规格?: M74HC373
footprint U-SOP-20
footprint U-SOP-20
pins: 1 ~{OE}, 2 Q0, 3 D0, 4 D1, 5 Q1, 6 Q2, 7 D2, 8 D3, 9 Q3, 10 GND, 11 LE, 12 Q4, 13 D4, 14 D5, 15 Q5, 16 Q6, 17 D6, 18 D7, 19 Q7, 20 VCC

## UD-PCF8563T
designator U?
集成电路-数字; 货品?: 341033
footprint U-SOP-8N
pins: 1 OSCI (in), 2 OSCO (out), 3 ~{INT} (out), 4 VSS (power), 5 SDA (io), 6 SCL (io), 7 CLK (in), 8 VDD (power)

## UD-SA556D
designator U?, comment SA556D
集成电路-数字; 货品?: 341021
footprint U-SOP-14N (Footprint not found)
part A pins: 1 1DIS, 2 1THR, 3 1CON, 4 1RST, 5 1OUT, 6 1TRI, 7 GND, 14 VCC
part B pins: 8 2TRI, 9 2OUT, 10 2RST, 11 2CON, 12 2THR, 13 2DIS

## UD-SG3525
designator U?, comment SG3525
货品?: 341110
footprint U-SOP-16N
pins: 1 INV, 2 NI, 3 ~{SYNC}, 4 OSC, 5 CT, 6 RT, 7 DIS, 8 soft-start, 9 com, 10 ~{shutdown}, 11 OUTA, 12 GND, 13 VC, 14 OUTB, 15 VCC, 16 Vref

## UD-SN74HC595
designator U?, comment SN74HC595
集成电路-数字; 货品?: 341014
footprint U-SOP-16N
pins: 1 O1 (hiz), 2 O2 (hiz), 3 O3 (hiz), 4 O4 (hiz), 5 O5 (hiz), 6 O6 (hiz), 7 O7 (hiz), 8 GND (power), 9 Q7 (out), 10 ~{SRCL}R (in), 11 SRCLK (in), 12 RCLK (in), 13 E (in), 14 SER (in), 15 O0 (hiz), 16 VCC (power)

## UD-TLC5618
designator U?, comment TLC5618
集成电路-数字; 货品?: 342017
footprint U-DIP-8N (Footprint not found)
pins: 1 RO, 2 ~{RE}, 3 DE, 4 DI, 5 GND, 6 A, 7 B, 8 VCC

## UD-ULN2003
designator U?
集成电路-数字; 货品?: 341032
footprint U-SOP-16N
pins: 1 1B, 2 2B, 3 3B, 4 4B, 5 5B, 6 6B, 7 7B, 8 E, 9 COM, 10 7C, 11 6C, 12 5C, 13 4C, 14 3C, 15 2C, 16 1C

## UM-AT24C64
designator U?, comment AT24C64
集成电路-存储
footprint U-SOP-8M
pins: 1 A0, 2 A1, 3 A2, 4 GND, 5 SDA, 6 SCL, 7 WP, 8 VCC

## UM-AT24C256
designator U?, comment AT24C256
集成电路-存储; 货品?: 341034
footprint U-SOP-8N (Footprint not found)
pins: 1 A0, 2 A1, 3 NC, 4 GND, 5 SDA, 6 SCL, 7 WP, 8 VCC

## UM-AT45DB041D-SU
designator U?, comment AT45DB041D-SU
集成电路-存储; 生产商: *; 供应商: *; 规格?: AT45DB041D-SU; 备注: *
footprint U-SOP-8M (Footprint not found)
pins: 1 SI, 2 SCK, 3 ~{RESET}, 4 ~{CS}, 5 ~{WP}, 6 VCC, 7 GND, 8 SO

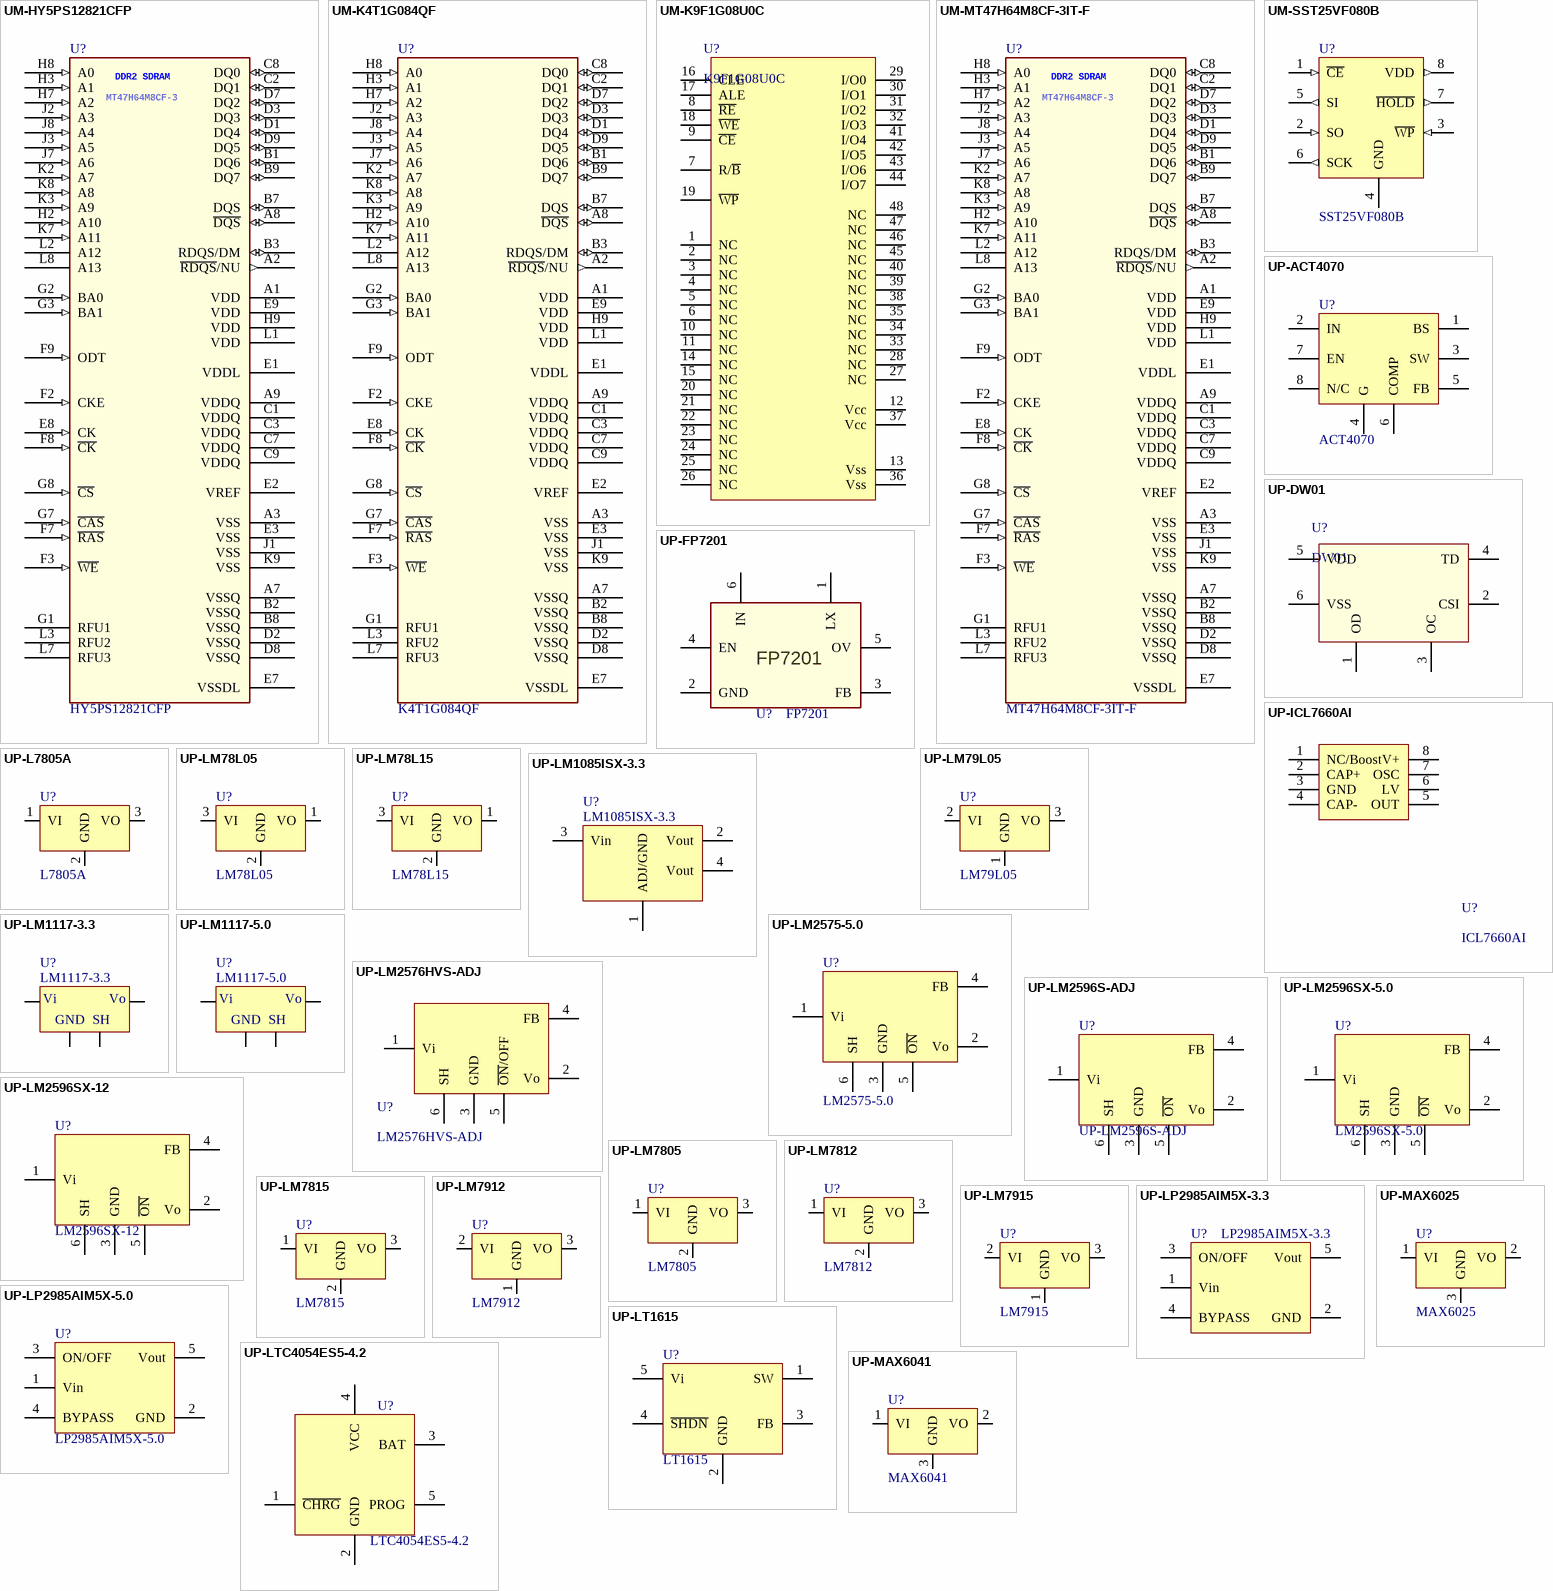
[diagram p4: symbols UM-HY5PS12821CFP to UP-MAX6041]

## UM-HY5PS12821CFP
designator U?, comment HY5PS12821CFP
集成电路-存储; 规格?: HY5PS12821CFP_DDR2 SDRAM 64Mx8; 供应商: *; 备注: *
footprint U-BGA-60P-8x10
pins: A1 VDD (power), A2 ~{RDQS}/NU (out), A3 VSS (power), A7 VSSQ (power), A8 ~{DQS} (io), A9 VDDQ (power), B1 DQ6 (io), B2 VSSQ (power), B3 RDQS/DM (io), B7 DQS (io), B8 VSSQ (power), B9 DQ7 (io), C1 VDDQ (power), C2 DQ1 (io), C3 VDDQ (power), C7 VDDQ (power), C8 DQ0 (io), C9 VDDQ (power), D1 DQ4 (io), D2 VSSQ (power), D3 DQ3 (io), D7 DQ2 (io), D8 VSSQ (power), D9 DQ5 (io), E1 VDDL (power), E2 VREF (power), E3 VSS (power), E7 VSSDL (power), E8 CK (in), E9 VDD (power), F2 CKE (in), F3 ~{WE} (in), F7 ~{RAS} (in), F8 ~{CK} (in), F9 ODT (in), G1 RFU1, G2 BA0 (in), G3 BA1 (in), G7 ~{CAS} (in), G8 ~{CS} (in), H2 A10 (in), H3 A1 (in), H7 A2 (in), H8 A0 (in), H9 VDD (power), J1 VSS (power), J2 A3 (in), J3 A5 (in), J7 A6 (in), J8 A4 (in), K2 A7 (in), K3 A9 (in), K7 A11 (in), K8 A8 (in), K9 VSS (power), L1 VDD (power), L2 A12, L3 RFU2, L7 RFU3, L8 A13
text: DDR2 SDRAM; MT47H64M8CF-3

## UM-K4T1G084QF
designator U?, comment K4T1G084QF
集成电路-存储; 规格?: K4T1G084QF; 供应商: *; 备注: *
footprint U-BGA-60P-8x10
pins: A1 VDD (power), A2 ~{RDQS}/NU (out), A3 VSS (power), A7 VSSQ (power), A8 ~{DQS} (io), A9 VDDQ (power), B1 DQ6 (io), B2 VSSQ (power), B3 RDQS/DM (io), B7 DQS (io), B8 VSSQ (power), B9 DQ7 (io), C1 VDDQ (power), C2 DQ1 (io), C3 VDDQ (power), C7 VDDQ (power), C8 DQ0 (io), C9 VDDQ (power), D1 DQ4 (io), D2 VSSQ (power), D3 DQ3 (io), D7 DQ2 (io), D8 VSSQ (power), D9 DQ5 (io), E1 VDDL (power), E2 VREF (power), E3 VSS (power), E7 VSSDL (power), E8 CK (in), E9 VDD (power), F2 CKE (in), F3 ~{WE} (in), F7 ~{RAS} (in), F8 ~{CK} (in), F9 ODT (in), G1 RFU1, G2 BA0 (in), G3 BA1 (in), G7 ~{CAS} (in), G8 ~{CS} (in), H2 A10 (in), H3 A1 (in), H7 A2 (in), H8 A0 (in), H9 VDD (power), J1 VSS (power), J2 A3 (in), J3 A5 (in), J7 A6 (in), J8 A4 (in), K2 A7 (in), K3 A9 (in), K7 A11 (in), K8 A8 (in), K9 VSS (power), L1 VDD (power), L2 A12, L3 RFU2, L7 RFU3, L8 A13

## UM-K9F1G08U0C
designator U?, comment K9F1G08U0C
集成电路-存储; 生产商: *; 供应商: *; 规格?: K9F1G08U0C; 备注: *
footprint U-TSOP-48 (Shrink Small Outline, Plastic, Thin; 48 Leads; Body Width 18.4 mm; Pitch 0.5 mm)
pins: 1 NC, 2 NC, 3 NC, 4 NC, 5 NC, 6 NC, 7 R/~{B}, 8 ~{RE}, 9 ~{CE}, 10 NC, 11 NC, 12 Vcc, 13 Vss, 14 NC, 15 NC, 16 CLE, 17 ALE, 18 ~{WE}, 19 ~{WP}, 20 NC, 21 NC, 22 NC, 23 NC, 24 NC, 25 NC, 26 NC, 27 NC, 28 NC, 29 I/O0, 30 I/O1, 31 I/O2, 32 I/O3, 33 NC, 34 NC, 35 NC, 36 Vss, 37 Vcc, 38 NC, 39 NC, 40 NC, 41 I/O4, 42 I/O5, 43 I/O6, 44 I/O7, 45 NC, 46 NC, 47 NC, 48 NC

## UM-MT47H64M8CF-3IT-F
designator U?, comment MT47H64M8CF-3IT-F
集成电路-存储; 规格?: MT47H64M8CF-3 IT-F_DDR2 SDRAM 64M x 8 x 4; 生产商: MICRON; 供应商: *; 备注: *
footprint U-BGA-60P-8x10
pins: A1 VDD (power), A2 ~{RDQS}/NU (out), A3 VSS (power), A7 VSSQ (power), A8 ~{DQS} (io), A9 VDDQ (power), B1 DQ6 (io), B2 VSSQ (power), B3 RDQS/DM (io), B7 DQS (io), B8 VSSQ (power), B9 DQ7 (io), C1 VDDQ (power), C2 DQ1 (io), C3 VDDQ (power), C7 VDDQ (power), C8 DQ0 (io), C9 VDDQ (power), D1 DQ4 (io), D2 VSSQ (power), D3 DQ3 (io), D7 DQ2 (io), D8 VSSQ (power), D9 DQ5 (io), E1 VDDL (power), E2 VREF (power), E3 VSS (power), E7 VSSDL (power), E8 CK (in), E9 VDD (power), F2 CKE (in), F3 ~{WE} (in), F7 ~{RAS} (in), F8 ~{CK} (in), F9 ODT (in), G1 RFU1, G2 BA0 (in), G3 BA1 (in), G7 ~{CAS} (in), G8 ~{CS} (in), H2 A10 (in), H3 A1 (in), H7 A2 (in), H8 A0 (in), H9 VDD (power), J1 VSS (power), J2 A3 (in), J3 A5 (in), J7 A6 (in), J8 A4 (in), K2 A7 (in), K3 A9 (in), K7 A11 (in), K8 A8 (in), K9 VSS (power), L1 VDD (power), L2 A12, L3 RFU2, L7 RFU3, L8 A13
text: DDR2 SDRAM; MT47H64M8CF-3

## UM-SST25VF080B
designator U?, comment SST25VF080B
集成电路-存储; 货品?: 341001
footprint U-SOP-8M (Footprint not found)
pins: 1 ~{CE} (in), 2 SO (in), 3 ~{WP} (in), 4 GND, 5 SI (out), 6 SCK (out), 7 ~{HOLD} (out), 8 VDD (out)

## UP-ACT4070
designator U?, comment ACT4070
集成电路-电源
footprint U-SOP-8N (Footprint not found)
pins: 1 BS, 2 IN, 3 SW, 4 G, 5 FB, 6 COMP, 7 EN, 8 N/C

## UP-DW01
designator U?, comment DW01
集成电路-电源; 备注: *; 货品?: *
footprint U-SOT-23-6
pins: 1 OD, 2 CSI, 3 OC, 4 TD, 5 VDD, 6 VSS

## UP-FP7201
designator U?, comment FP7201
集成电路-电源; 规格?: FP7201hR-G1; 备注: *
footprint U-SOT-23-6
pins: 1 LX, 2 GND, 3 FB, 4 EN, 5 OV, 6 IN

## UP-ICL7660AI
designator U?, comment ICL7660AI
集成电路-电源; 货品?: 341078; 生产商: INTERSIL
footprint U-SOP-8N
pins: 1 NC/Boost, 2 CAP+, 3 GND, 4 CAP-, 5 OUT, 6 LV, 7 OSC, 8 V+

## UP-L7805A
designator U?, comment L7805A
集成电路-电源; 货品?: 341030
footprint U-D2PAK (Footprint not found)
pins: 1 VI, 2 GND, 3 VO

## UP-LM78L05
designator U?, comment LM78L05
集成电路-电源; 货品?: 355006
footprint U-TO-92A
pins: 1 VO, 2 GND, 3 VI

## UP-LM78L15
designator U?, comment LM78L15
集成电路-电源; 货品?: 355007
footprint U-TO-92A
pins: 1 VO, 2 GND, 3 VI

## UP-LM79L05
designator U?, comment LM79L05
集成电路-电源; 货品?: 355008
footprint U-TO-92
footprint U-D2PAK
pins: 1 GND, 2 VI, 3 VO

## UP-LM1085ISX-3.3
designator U?, comment LM1085ISX-3.3
集成电路-电源
footprint U-TO-263-3P
footprint U-TO-263-3P
pins: 1 ADJ/GND, 2 Vout, 3 Vin, 4 Vout

## UP-LM1117-3.3
designator U?, comment LM1117-3.3
集成电路-电源; 货品?: 353002
footprint U-SOT-223 (Footprint not found)
pins: 1, 2, 3, 4
text: Vi; Vo; GND; SH

## UP-LM1117-5.0
designator U?, comment LM1117-5.0
集成电路-电源; 货品?: 341029
footprint U-SOT-223
pins: 1, 2, 3, 4
text: Vi; Vo; GND; SH

## UP-LM2575-5.0
designator U?, comment LM2575-5.0
集成电路-电源; 货品?: 353003
footprint U-TO-263 (Footprint not found)
pins: 1 Vi, 2 Vo, 3 GND, 4 FB, 5 ~{ON}, 6 SH

## UP-LM2576HVS-ADJ
designator U?, comment LM2576HVS-ADJ
集成电路-电源; 货品?: 353006
footprint U-TO-263
pins: 1 Vi, 2 Vo, 3 GND, 4 FB, 5 ~{ON}/OFF, 6 SH

## UP-LM2596S-ADJ
designator U?
集成电路-电源; 货品?: 353004
footprint U-TO-263
pins: 1 Vi, 2 Vo, 3 GND, 4 FB, 5 ~{ON}, 6 SH

## UP-LM2596SX-5.0
designator U?, comment LM2596SX-5.0
集成电路-电源; 货品?: 353001
footprint U-TO-263
pins: 1 Vi, 2 Vo, 3 GND, 4 FB, 5 ~{ON}, 6 SH

## UP-LM2596SX-12
designator U?, comment LM2596SX-12
集成电路-电源
footprint U-TO-263
pins: 1 Vi, 2 Vo, 3 GND, 4 FB, 5 ~{ON}, 6 SH

## UP-LM7805
designator U?, comment LM7805
集成电路-电源; 货品?: 355001
footprint U-TO-220(15/10/25) (Footprint not found)
pins: 1 VI, 2 GND, 3 VO

## UP-LM7812
designator U?, comment LM7812
集成电路-电源; 货品?: 355002
footprint U-TO-220(15/10/25)
pins: 1 VI, 2 GND, 3 VO

## UP-LM7815
designator U?, comment LM7815
集成电路-电源; 货品?: 355004
footprint U-TO-220(15/10/25)
pins: 1 VI, 2 GND, 3 VO

## UP-LM7912
designator U?, comment LM7912
集成电路-电源; 货品?: 355003
footprint U-TO-220(15/10/25)
footprint Q-TO-220
pins: 1 GND, 2 VI, 3 VO

## UP-LM7915
designator U?, comment LM7915
集成电路-电源; 货品?: 355005
footprint U-TO-220(15/10/25)
pins: 1 GND, 2 VI, 3 VO

## UP-LP2985AIM5X-3.3
designator U?, comment LP2985AIM5X-3.3
集成电路-电源; 货品?: 341080
footprint U-SOT-23-5
pins: 1 Vin, 2 GND, 3 ON/OFF, 4 BYPASS, 5 Vout

## UP-LP2985AIM5X-5.0
designator U?, comment LP2985AIM5X-5.0
集成电路-电源; 货品?: 341048; 备注: *; 供应商: *; 规格?: LP2985AIM5X-5.0
footprint U-SOT-23-5
pins: 1 Vin, 2 GND, 3 ON/OFF, 4 BYPASS, 5 Vout

## UP-LT1615
designator U?, comment LT1615
集成电路-电源; 货品?: 341023
footprint U-SOT-23-5
pins: 1 SW, 2 GND, 3 FB, 4 ~{SHDN}, 5 Vi

## UP-LTC4054ES5-4.2
designator U?, comment LTC4054ES5-4.2
集成电路-电源; 品牌: Linear; 供应商: Linear; 规格?: LTC4054ES5-4.2
footprint U-SOT-23-5
pins: 1 ~{CHRG}, 2 GND, 3 BAT, 4 VCC, 5 PROG

## UP-MAX6025
designator U?, comment MAX6025
集成电路-电源; 货品?: 341005
footprint U-SOT-23-3
pins: 1 VI, 2 VO, 3 GND

## UP-MAX6041
designator U?, comment MAX6041
集成电路-电源; 货品?: 341063
footprint U-SOT-23-3
pins: 1 VI, 2 VO, 3 GND

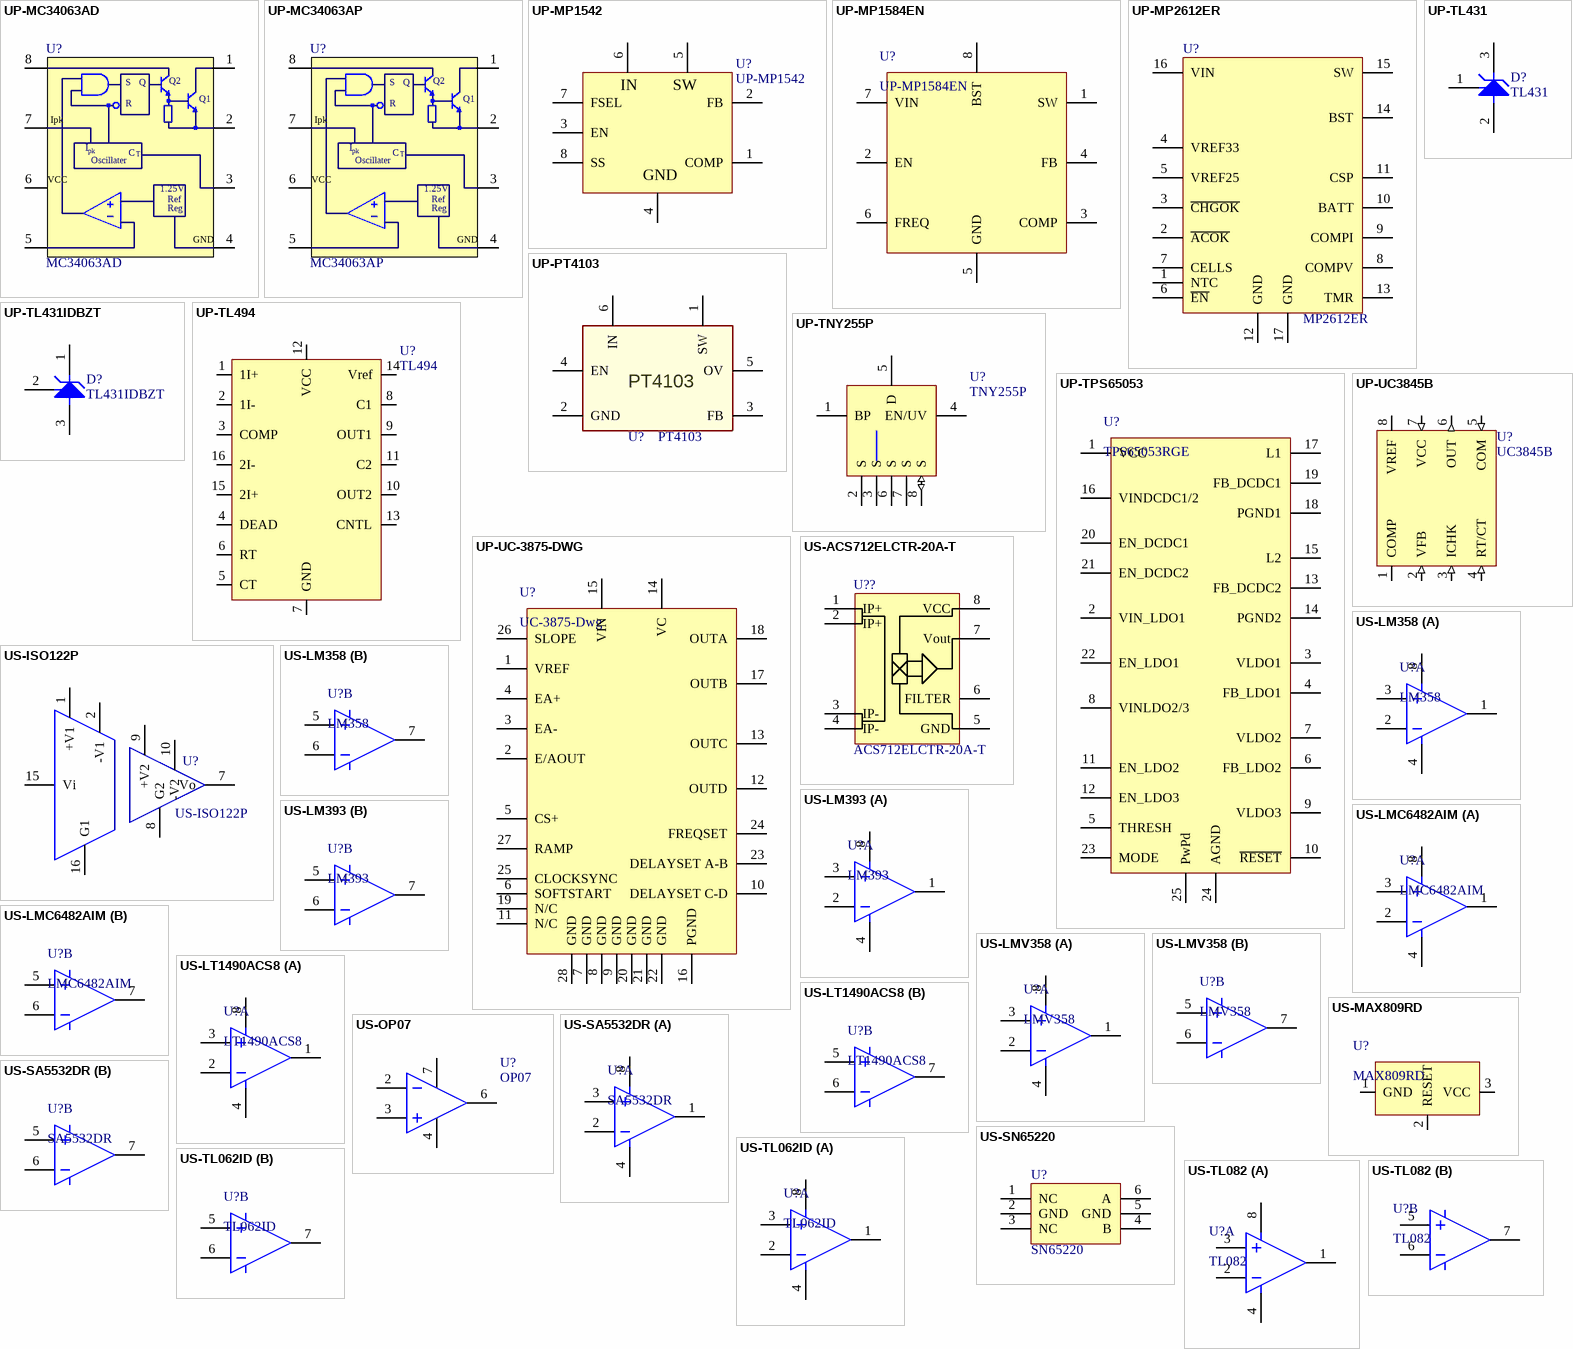
[diagram p5: symbols UP-MC34063AD to US-TL082]

## UP-MC34063AD
designator U?, comment MC34063AD
集成电路-电源; 货品?: 341031
footprint U-SOP-8N
pins: 1, 2, 3, 4 GND, 5, 6, 7, 8
text: S; Q; Q2; Q1; R; Ipk; I; pk; C; T; Oscillater; VCC; 1.25V; Ref; Reg

## UP-MC34063AP
designator U?, comment MC34063AP
集成电路-电源; 货品?: 342002
footprint U-DIP-8N
pins: 1, 2, 3, 4 GND, 5, 6, 7, 8
text: S; Q; Q2; Q1; R; Ipk; I; pk; C; T; Oscillater; VCC; 1.25V; Ref; Reg

## UP-MP1542
designator U?
集成电路-电源
footprint U-MSOP-8N
pins: 1 COMP, 2 FB, 3 EN, 4 GND (power), 5 SW, 6 IN, 7 FSEL, 8 SS

## UP-MP1584EN
designator U?
集成电路-电源; 生产商: MPS; 货品?: 341077; 规格?: MP1584EN; 备注: *; 供应商: *
footprint U-SOP-8N
pins: 1 SW, 2 EN, 3 COMP, 4 FB, 5 GND, 6 FREQ, 7 VIN, 8 BST

## UP-MP2612ER
designator U?, comment MP2612ER
集成电路-电源; 货品?: 341082; 生产商: MPS; 规格?: MP2612ER
footprint U-QFN-16 (Footprint not found)
pins: 1 NTC, 2 ~{ACOK}, 3 ~{CHGOK}, 4 VREF33, 5 VREF25, 6 ~{EN}, 7 CELLS, 8 COMPV, 9 COMPI, 10 BATT, 11 CSP, 12 GND, 13 TMR, 14 BST, 15 SW, 16 VIN, 17 GND

## UP-PT4103
designator U?, comment PT4103
集成电路-电源; 货品?: 341083; 备注: *
footprint U-SOT-23-6
pins: 1 SW, 2 GND, 3 FB, 4 EN, 5 OV, 6 IN

## UP-TL431
designator D?, comment TL431
集成电路-电源; 货品?: 332001
footprint U-TO-92A
pins: 1 R, 2 K, 3 A

## UP-TL431IDBZT
designator D?, comment TL431IDBZT
集成电路-电源; 货品?: 341040
footprint U-SOT-23-3
pins: 1 R, 2 K, 3 A

## UP-TL494
designator U?, comment TL494
集成电路-电源
footprint U-DIP-16N (Footprint not found)
pins: 1 1I+, 2 1I-, 3 COMP, 4 DEAD, 5 CT, 6 RT, 7 GND, 8 C1, 9 OUT1, 10 OUT2, 11 C2, 12 VCC, 13 CNTL, 14 Vref, 15 2I+, 16 2I-

## UP-TNY255P
designator U?, comment TNY255P
集成电路-电源; 货品?: 342003
footprint U-DIP-8N (Footprint not found)
pins: 1 BP, 2 S, 3 S, 4 EN/UV, 5 D, 6 S, 7 S, 8 S (io)

## UP-TPS65053
designator U?, comment TPS65053RGE
集成电路-电源
footprint U-QFN-24
pins: 1 VCC, 2 VIN_LDO1, 3 VLDO1, 4 FB_LDO1, 5 THRESH, 6 FB_LDO2, 7 VLDO2, 8 VINLDO2/3, 9 VLDO3, 10 ~{RESET}, 11 EN_LDO2, 12 EN_LDO3, 13 FB_DCDC2, 14 PGND2, 15 L2, 16 VINDCDC1/2, 17 L1, 18 PGND1, 19 FB_DCDC1, 20 EN_DCDC1, 21 EN_DCDC2, 22 EN_LDO1, 23 MODE, 24 AGND, 25 PwPd

## UP-UC3845B
designator U?, comment UC3845B
集成电路-电源; 货品?: 342001
footprint U-DIP-8N (Footprint not found)
pins: 1 COMP (io), 2 VFB (in), 3 ICHK (in), 4 RT/CT (in), 5 COM (in), 6 OUT (out), 7 VCC (in), 8 VREF (io)

## UP-UC-3875-DWG
designator U?, comment UC-3875-Dwg
集成电路-电源
footprint U-SOIC-28N
footprint U-SOIC-28N
pins: 1 VREF, 2 E/AOUT, 3 EA-, 4 EA+, 5 CS+, 6 SOFTSTART, 7 GND, 8 GND, 9 GND, 10 DELAYSET C-D, 11 N/C, 12 OUTD, 13 OUTC, 14 VC, 15 VIN, 16 PGND, 17 OUTB, 18 OUTA, 19 N/C, 20 GND, 21 GND, 22 GND, 23 DELAYSET A-B, 24 FREQSET, 25 CLOCKSYNC, 26 SLOPE, 27 RAMP, 28 GND

## US-ACS712ELCTR-20A-T
designator U??, comment ACS712ELCTR-20A-T
线性霍尔传感器; 货品?: 341074; 备注: *; 生产商: *; 供应商: *; 规格?: ACS712ELCTR-20A-T
footprint U-SOP-8M
pins: 1 IP+, 2 IP+, 3 IP-, 4 IP-, 5 GND, 6 FILTER, 7 Vout, 8 VCC

## US-ISO122P
designator U?
隔离放大器
footprint DIP-16N-8P
pins: 1 +V1, 2 -V1, 7 Vo, 8 G2, 9 +V2, 10 -V2, 15 Vi, 16 G1

## US-LM358
designator U?, comment LM358
集成电路-模拟; 货品?: 341050; 生产商: *; 规格?: *; 供应商: *; 备注: *
footprint U-SOP-8N (Footprint not found)
part A pins: 1, 2, 3, 4, 8
part B pins: 5, 6, 7

## US-LM393
designator U?, comment LM393
集成电路-比较器; 货品?: 341114; 生产商: *; 规格?: *; 供应商: *; 备注: *
footprint U-SOP-8N (Footprint not found)
part A pins: 1, 2, 3, 4, 8
part B pins: 5, 6, 7

## US-LMC6482AIM
designator U?, comment LMC6482AIM
集成电路-模拟; 货品?: 341009; 生产商: *; 规格?: *; 供应商: *; 备注: *
footprint U-SOP-8N (Footprint not found)
part A pins: 1, 2, 3, 4, 8
part B pins: 5, 6, 7

## US-LMV358
designator U?, comment LMV358
集成电路-模拟; 货品?: 341006; 生产商: *; 规格?: *; 供应商: *; 备注: *
footprint U-SOP-8N (Footprint not found)
part A pins: 1, 2, 3, 4, 8
part B pins: 5, 6, 7

## US-LT1490ACS8
designator U?, comment LT1490ACS8
集成电路-模拟; 货品?: 341056; 生产商: *; 规格?: *; 供应商: *; 备注: *
footprint U-SOP-8N (Footprint not found)
part A pins: 1, 2, 3, 4, 8
part B pins: 5, 6, 7

## US-MAX809RD
designator U?, comment MAX809RD
集成电路-模拟; 货品?: 341073
footprint U-SOT-23-3
pins: 1 GND, 2 RESET, 3 VCC

## US-OP07
designator U?, comment OP07
集成电路-模拟; 货品?: 341004; 生产商: *; 规格?: *; 供应商: *; 备注: *
footprint U-SOP-8N (Footprint not found)
pins: 1 N1 hidden to N1, 2 IN-, 3 IN+, 4 V-, 6 OUT, 7 V+, 8 N2 hidden to N2

## US-SA5532DR
designator U?, comment SA5532DR
集成电路-模拟; 规格?: SA5532DR; 供应商: *; 备注: *
footprint U-SOP-8N (Footprint not found)
part A pins: 1, 2, 3, 4, 8
part B pins: 5, 6, 7

## US-SN65220
designator U?, comment SN65220
集成电路-ESD保护; 货品?: 341079
footprint U-SOT-23-6
pins: 1 NC, 2 GND, 3 NC, 4 B, 5 GND, 6 A

## US-TL062ID
designator U?, comment TL062ID
集成电路-模拟; 货品?: 341071; 生产商: *; 规格?: *; 供应商: *; 备注: *
footprint U-SOP-8N (Footprint not found)
part A pins: 1, 2, 3, 4, 8
part B pins: 5, 6, 7

## US-TL082
designator U?, comment TL082
集成电路; 货品?: 341112; 规格?: TL082 OP-8; 备注: *; 供应商: *; 生产商: *
footprint U-SOP-8N
part A pins: 1, 2, 3, 4, 8
part B pins: 5, 6, 7

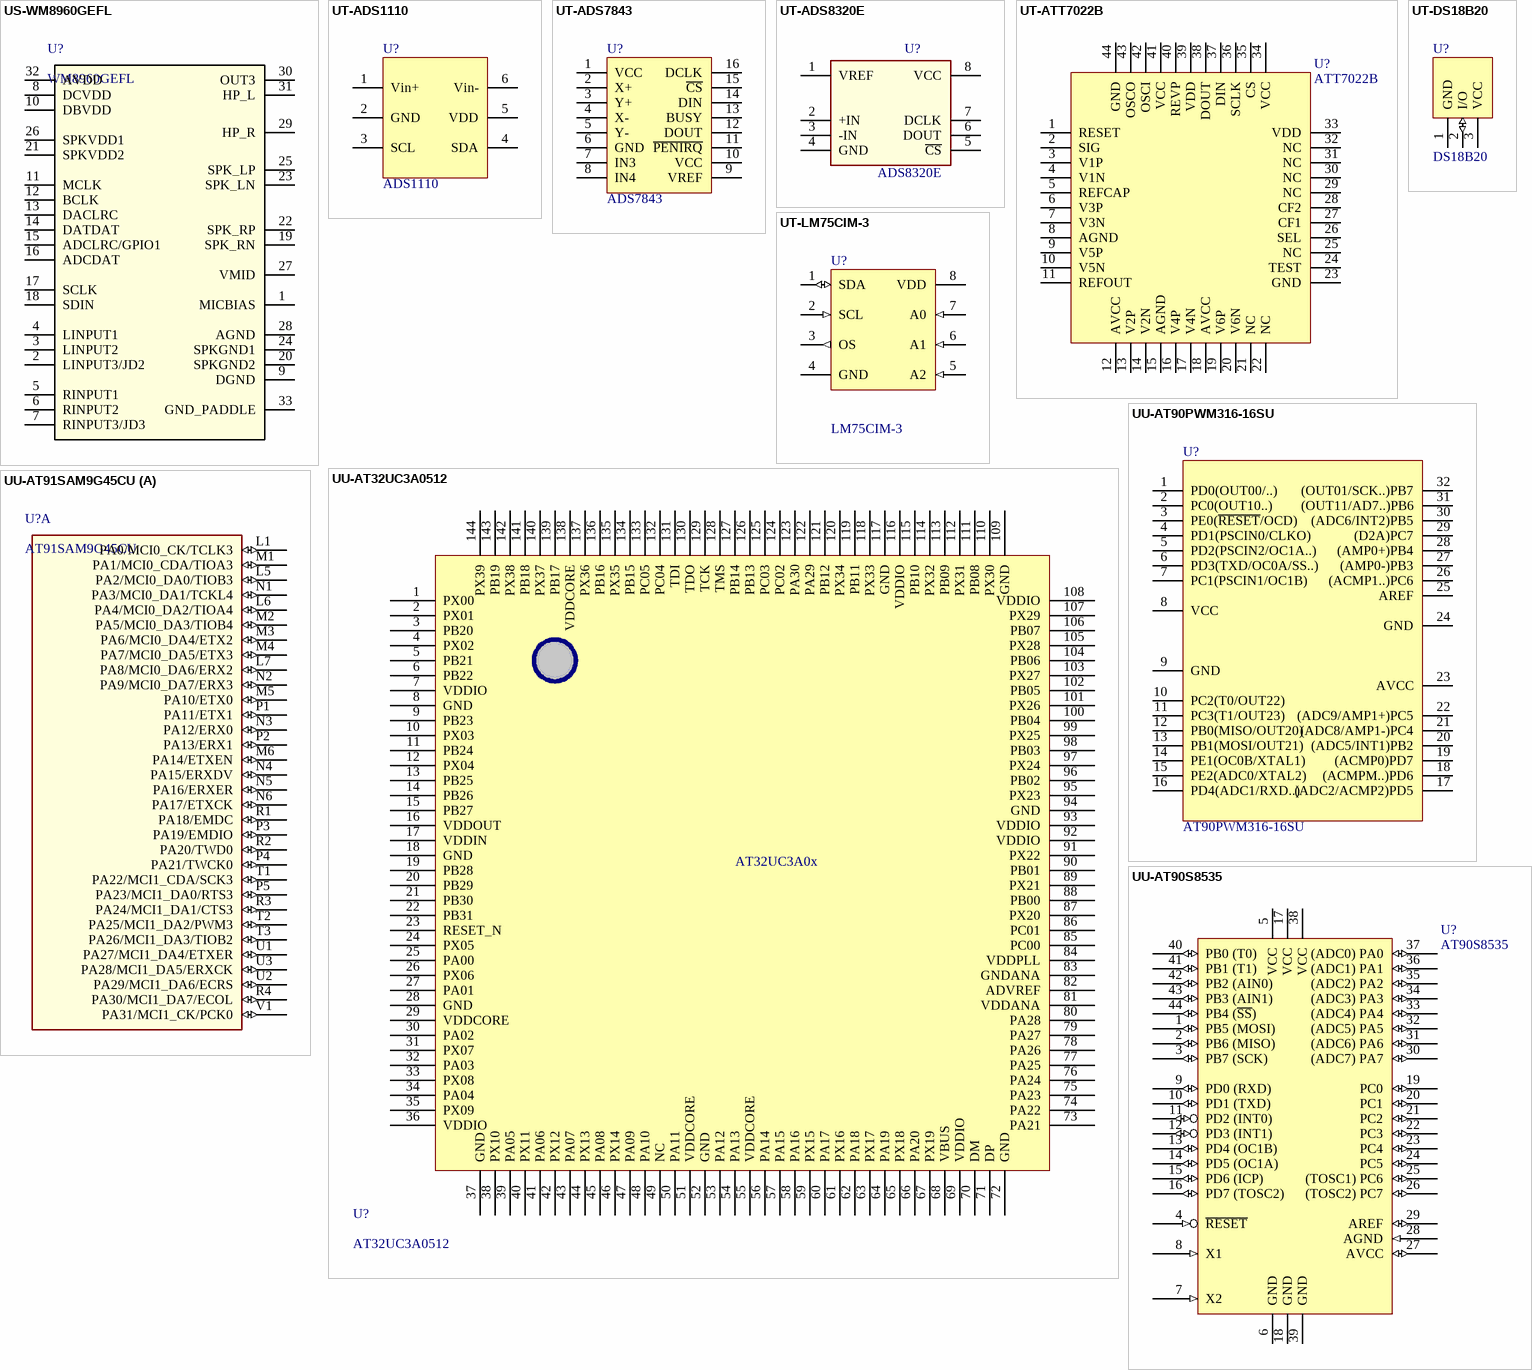
[diagram p6: symbols US-WM8960GEFL to UU-AT91SAM9G45CU]

## US-WM8960GEFL
designator U?, comment WM8960GEFL
集成电路-模拟; 备注: *; 规格?: WM8960GEFL; 货品?: *; 供应商: *; 生厂商: *
footprint U-QFN-32
pins: 1 MICBIAS, 2 LINPUT3/JD2, 3 LINPUT2, 4 LINPUT1, 5 RINPUT1, 6 RINPUT2, 7 RINPUT3/JD3, 8 DCVDD, 9 DGND, 10 DBVDD, 11 MCLK, 12 BCLK, 13 DACLRC, 14 DATDAT, 15 ADCLRC/GPIO1, 16 ADCDAT, 17 SCLK, 18 SDIN, 19 SPK_RN, 20 SPKGND2, 21 SPKVDD2, 22 SPK_RP, 23 SPK_LN, 24 SPKGND1, 25 SPK_LP, 26 SPKVDD1, 27 VMID, 28 AGND, 29 HP_R, 30 OUT3, 31 HP_L, 32 AVDD, 33 GND_PADDLE

## UT-ADS1110
designator U?, comment ADS1110
集成电路-AD/DA; 货品?: 341046
footprint U-SOT-23-6 (Footprint not found)
pins: 1 Vin+, 2 GND, 3 SCL, 4 SDA, 5 VDD, 6 Vin-

## UT-ADS7843
designator U?, comment ADS7843
集成电路-AD/DA; 货品?: 341011
footprint U-SOP-16W (Footprint not found)
pins: 1 VCC, 2 X+, 3 Y+, 4 X-, 5 Y-, 6 GND, 7 IN3, 8 IN4, 9 VREF, 10 VCC, 11 ~{PENIRQ}, 12 DOUT, 13 BUSY, 14 DIN, 15 ~{CS}, 16 DCLK
1 alternate drawing of the same symbol

## UT-ADS8320E
designator U?, comment ADS8320E
集成电路-AD/DA; 品牌: *; 备注: *
footprint U-SSOP-8
pins: 1 VREF, 2 +IN, 3 -IN, 4 GND, 5 ~{CS}, 6 DOUT, 7 DCLK, 8 VCC

## UT-ATT7022B
designator U?, comment ATT7022B
集成电路-AD/DA; 货品?: 341016
footprint U-TQFP-44 (Footprint not found)
pins: 1 RESET (power), 2 SIG, 3 V1P, 4 V1N, 5 REFCAP, 6 V3P, 7 V3N, 8 AGND, 9 V5P, 10 V5N, 11 REFOUT, 12 AVCC, 13 V2P, 14 V2N, 15 AGND, 16 V4P, 17 V4N, 18 AVCC, 19 V6P, 20 V6N, 21 NC, 22 NC, 23 GND, 24 TEST, 25 NC, 26 SEL, 27 CF1, 28 CF2, 29 NC, 30 NC, 31 NC, 32 NC, 33 VDD, 34 VCC, 35 CS, 36 SCLK, 37 DIN, 38 DOUT, 39 VDD, 40 REVP, 41 VCC, 42 OSCI, 43 OSCO, 44 GND

## UT-DS18B20
designator U?, comment DS18B20
集成电路-AD/DA; 货品?: 342009
footprint U-TO-92A
pins: 1 GND (power), 2 I/O (io), 3 VCC (power)

## UT-LM75CIM-3
designator U?, comment LM75CIM-3
集成电路-AD/DA; 货品?: 341020
footprint U-SOP-8N (Footprint not found)
pins: 1 SDA (io), 2 SCL (in), 3 OS (out), 4 GND (power), 5 A2 (in), 6 A1 (in), 7 A0 (in), 8 VDD (power)

## UU-AT32UC3A0512
designator U?, comment AT32UC3A0512
集成电路-MCU; 货品?: 341008
footprint U-TQFP-144 (TSQFP, 144-Leads, Body 22.1x22.1mm (max), Pitch 0.50mm, IPC Medium Density)
pins: 1 PX00, 2 PX01, 3 PB20, 4 PX02, 5 PB21, 6 PB22, 7 VDDIO, 8 GND, 9 PB23, 10 PX03, 11 PB24, 12 PX04, 13 PB25, 14 PB26, 15 PB27, 16 VDDOUT, 17 VDDIN, 18 GND, 19 PB28, 20 PB29, 21 PB30, 22 PB31, 23 RESET_N, 24 PX05, 25 PA00, 26 PX06, 27 PA01, 28 GND, 29 VDDCORE, 30 PA02, 31 PX07, 32 PA03, 33 PX08, 34 PA04, 35 PX09, 36 VDDIO, 37 GND, 38 PX10, 39 PA05, 40 PX11, 41 PA06, 42 PX12, 43 PA07, 44 PX13, 45 PA08, 46 PX14, 47 PA09, 48 PA10, 49 NC, 50 PA11, 51 VDDCORE, 52 GND, 53 PA12, 54 PA13, 55 VDDCORE, 56 PA14, 57 PA15, 58 PA16, 59 PX15, 60 PA17, 61 PX16, 62 PA18, 63 PX17, 64 PA19, 65 PX18, 66 PA20, 67 PX19, 68 VBUS, 69 VDDIO, 70 DM, 71 DP, 72 GND, 73 PA21, 74 PA22, 75 PA23, 76 PA24, 77 PA25, 78 PA26, 79 PA27, 80 PA28, 81 VDDANA, 82 ADVREF, 83 GNDANA, 84 VDDPLL, 85 PC00, 86 PC01, 87 PX20, 88 PB00, 89 PX21, 90 PB01, 91 PX22, 92 VDDIO, 93 VDDIO, 94 GND, 95 PX23, 96 PB02, 97 PX24, 98 PB03, 99 PX25, 100 PB04, 101 PX26, 102 PB05, 103 PX27, 104 PB06, 105 PX28, 106 PB07, 107 PX29, 108 VDDIO, 109 GND, 110 PX30, 111 PB08, 112 PX31, 113 PB09, 114 PX32, 115 PB10, 116 VDDIO, 117 GND, 118 PX33, 119 PB11, 120 PX34, 121 PB12, 122 PA29, 123 PA30, 124 PC02, 125 PC03, 126 PB13, 127 PB14, 128 TMS, 129 TCK, 130 TDO, 131 TDI, 132 PC04, 133 PC05, 134 PB15, 135 PX35, 136 PB16, 137 PX36, 138 VDDCORE, 139 PB17, 140 PX37, 141 PB18, 142 PX38, 143 PB19, 144 PX39
text: AT32UC3A0x

## UU-AT90PWM316-16SU
designator U?, comment AT90PWM316-16SU
集成电路-MCU; 货品?: 341072
footprint U-SOP-32 (Footprint not found)
pins: 1 PD0(OUT00/..), 2 PC0(OUT10..), 3 PE0(~{RESET}/OCD), 4 PD1(PSCIN0/CLKO), 5 PD2(PSCIN2/OC1A..), 6 PD3(TXD/OC0A/SS..), 7 PC1(PSCIN1/OC1B), 8 VCC, 9 GND, 10 PC2(T0/OUT22), 11 PC3(T1/OUT23), 12 PB0(MISO/OUT20), 13 PB1(MOSI/OUT21), 14 PE1(OC0B/XTAL1), 15 PE2(ADC0/XTAL2), 16 PD4(ADC1/RXD..), 17 (ADC2/ACMP2)PD5, 18 (ACMPM..)PD6, 19 (ACMP0)PD7, 20 (ADC5/INT1)PB2, 21 (ADC8/AMP1-)PC4, 22 (ADC9/AMP1+)PC5, 23 AVCC, 24 GND, 25 AREF, 26 (ACMP1..)PC6, 27 (AMP0-)PB3, 28 (AMP0+)PB4, 29 (D2A)PC7, 30 (ADC6/INT2)PB5, 31 (OUT11/AD7..)PB6, 32 (OUT01/SCK..)PB7

## UU-AT90S8535
designator U?, comment AT90S8535
集成电路-MCU
footprint U-TQFP-44 (Footprint not found)
pins: 1 PB5 (MOSI) (io), 2 PB6 (MISO) (io), 3 PB7 (SCK) (io), 4 ~{RESET} (in), 5 VCC, 6 GND, 7 X2 (in), 8 X1 (in), 9 PD0 (RXD) (io), 10 PD1 (TXD) (io), 11 PD2 (INT0) (io), 12 PD3 (INT1) (io), 13 PD4 (OC1B) (io), 14 PD5 (OC1A) (io), 15 PD6 (ICP) (io), 16 PD7 (TOSC2) (io), 17 VCC, 18 GND, 19 PC0 (io), 20 PC1 (io), 21 PC2 (io), 22 PC3 (io), 23 PC4 (io), 24 PC5 (io), 25 (TOSC1) PC6 (io), 26 (TOSC2) PC7 (io), 27 AVCC (io), 28 AGND (in), 29 AREF (io), 30 (ADC7) PA7 (io), 31 (ADC6) PA6 (io), 32 (ADC5) PA5 (io), 33 (ADC4) PA4 (io), 34 (ADC3) PA3 (io), 35 (ADC2) PA2 (io), 36 (ADC1) PA1 (io), 37 (ADC0) PA0 (io), 38 VCC (power), 39 GND (power), 40 PB0 (T0) (io), 41 PB1 (T1) (io), 42 PB2 (AIN0) (io), 43 PB3 (AIN1) (io), 44 PB4 (~{SS}) (io)

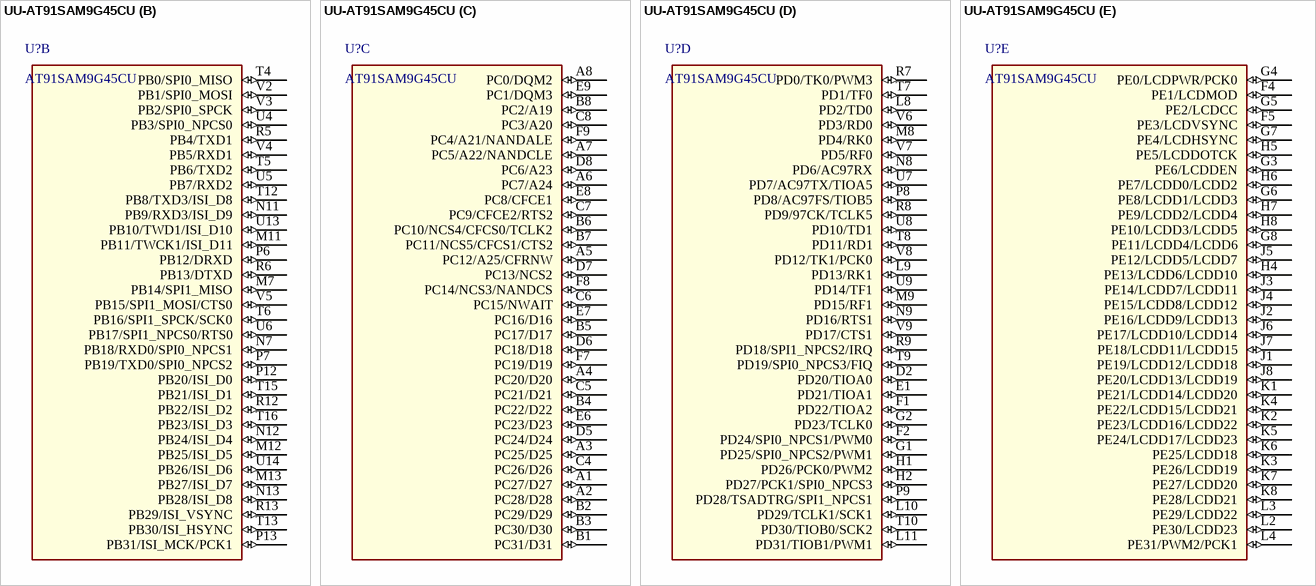
[diagram p7: symbol UU-AT91SAM9G45CU]

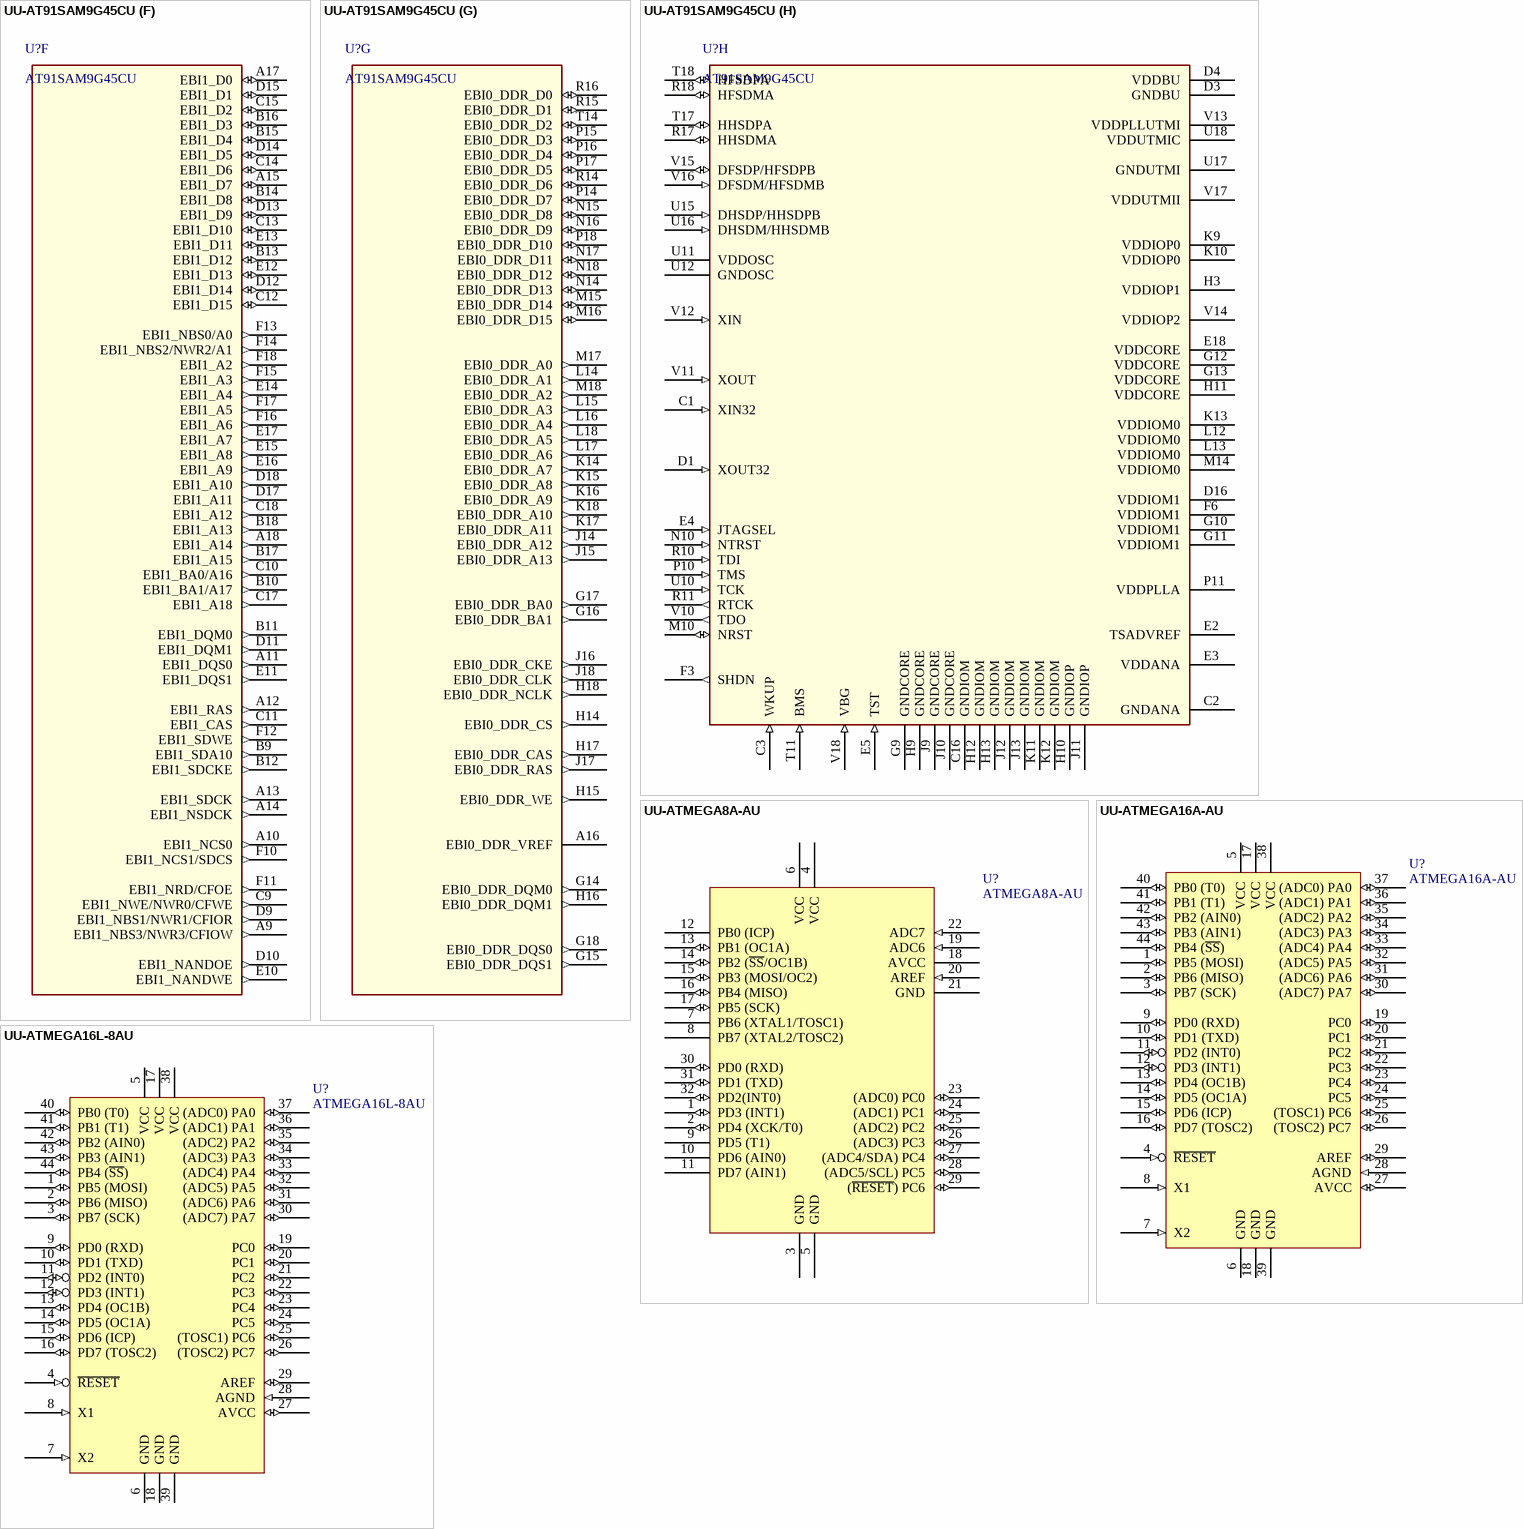
[diagram p8: symbols UU-AT91SAM9G45CU to UU-ATMEGA16L-8AU]

## UU-AT91SAM9G45CU
designator U?, comment AT91SAM9G45CU
集成电路-MCU; 生产商: ATMEL; 规格?: U-TFBGA-324P-15x15; 供应商: *; 备注: *
footprint U-TFBGA-324P-15x15 (Footprint not found)
part A pins: L1 PA0/MCI0_CK/TCLK3 (io), L5 PA2/MCI0_DA0/TIOB3 (io), L6 PA4/MCI0_DA2/TIOA4 (io), L7 PA8/MCI0_DA6/ERX2 (io), M1 PA1/MCI0_CDA/TIOA3 (io), M2 PA5/MCI0_DA3/TIOB4 (io), M3 PA6/MCI0_DA4/ETX2 (io), M4 PA7/MCI0_DA5/ETX3 (io), M5 PA10/ETX0 (io), M6 PA14/ETXEN (io), N1 PA3/MCI0_DA1/TCKL4 (io), N2 PA9/MCI0_DA7/ERX3 (io), N3 PA12/ERX0 (io), N4 PA15/ERXDV (io), N5 PA16/ERXER (io), N6 PA17/ETXCK (io), P1 PA11/ETX1 (io), P2 PA13/ERX1 (io), P3 PA19/EMDIO (io), P4 PA21/TWCK0 (io), P5 PA23/MCI1_DA0/RTS3 (io), R1 PA18/EMDC (io), R2 PA20/TWD0 (io), R3 PA24/MCI1_DA1/CTS3 (io), R4 PA30/MCI1_DA7/ECOL (io), T1 PA22/MCI1_CDA/SCK3 (io), T2 PA25/MCI1_DA2/PWM3 (io), T3 PA26/MCI1_DA3/TIOB2 (io), U1 PA27/MCI1_DA4/ETXER (io), U2 PA29/MCI1_DA6/ECRS (io), U3 PA28/MCI1_DA5/ERXCK (io), V1 PA31/MCI1_CK/PCK0 (io)
part B pins: M7 PB14/SPI1_MISO (io), M11 PB11/TWCK1/ISI_D11 (io), M12 PB25/ISI_D5 (io), M13 PB27/ISI_D7 (io), N7 PB18/RXD0/SPI0_NPCS1 (io), N11 PB9/RXD3/ISI_D9 (io), N12 PB24/ISI_D4 (io), N13 PB28/ISI_D8 (io), P6 PB12/DRXD (io), P7 PB19/TXD0/SPI0_NPCS2 (io), P12 PB20/ISI_D0 (io), P13 PB31/ISI_MCK/PCK1 (io), R5 PB4/TXD1 (io), R6 PB13/DTXD (io), R12 PB22/ISI_D2 (io), R13 PB29/ISI_VSYNC (io), T4 PB0/SPI0_MISO (io), T5 PB6/TXD2 (io), T6 PB16/SPI1_SPCK/SCK0 (io), T12 PB8/TXD3/ISI_D8 (io), T13 PB30/ISI_HSYNC (io), T15 PB21/ISI_D1 (io), T16 PB23/ISI_D3 (io), U4 PB3/SPI0_NPCS0 (io), U5 PB7/RXD2 (io), U6 PB17/SPI1_NPCS0/RTS0 (io), U13 PB10/TWD1/ISI_D10 (io), U14 PB26/ISI_D6 (io), V2 PB1/SPI0_MOSI (io), V3 PB2/SPI0_SPCK (io), V4 PB5/RXD1 (io), V5 PB15/SPI1_MOSI/CTS0 (io)
part C pins: A1 PC27/D27 (io), A2 PC28/D28 (io), A3 PC25/D25 (io), A4 PC20/D20 (io), A5 PC12/A25/CFRNW (io), A6 PC7/A24 (io), A7 PC5/A22/NANDCLE (io), A8 PC0/DQM2 (io), B1 PC31/D31 (io), B2 PC29/D29 (io), B3 PC30/D30 (io), B4 PC22/D22 (io), B5 PC17/D17 (io), B6 PC10/NCS4/CFCS0/TCLK2 (io), B7 PC11/NCS5/CFCS1/CTS2 (io), B8 PC2/A19 (io), C4 PC26/D26 (io), C5 PC21/D21 (io), C6 PC15/NWAIT (io), C7 PC9/CFCE2/RTS2 (io), C8 PC3/A20 (io), D5 PC24/D24 (io), D6 PC18/D18 (io), D7 PC13/NCS2 (io), D8 PC6/A23 (io), E6 PC23/D23 (io), E7 PC16/D16 (io), E8 PC8/CFCE1 (io), E9 PC1/DQM3 (io), F7 PC19/D19 (io), F8 PC14/NCS3/NANDCS (io), F9 PC4/A21/NANDALE (io)
part D pins: D2 PD20/TIOA0 (io), E1 PD21/TIOA1 (io), F1 PD22/TIOA2 (io), F2 PD24/SPI0_NPCS1/PWM0 (io), G1 PD25/SPI0_NPCS2/PWM1 (io), G2 PD23/TCLK0 (io), H1 PD26/PCK0/PWM2 (io), H2 PD27/PCK1/SPI0_NPCS3 (io), L8 PD2/TD0 (io), L9 PD13/RK1 (io), L10 PD29/TCLK1/SCK1 (io), L11 PD31/TIOB1/PWM1 (io), M8 PD4/RK0 (io), M9 PD15/RF1 (io), N8 PD6/AC97RX (io), N9 PD16/RTS1 (io), P8 PD8/AC97FS/TIOB5 (io), P9 PD28/TSADTRG/SPI1_NPCS1 (io), R7 PD0/TK0/PWM3 (io), R8 PD9/97CK/TCLK5 (io), R9 PD18/SPI1_NPCS2/IRQ (io), T7 PD1/TF0 (io), T8 PD11/RD1 (io), T9 PD19/SPI0_NPCS3/FIQ (io), T10 PD30/TIOB0/SCK2 (io), U7 PD7/AC97TX/TIOA5 (io), U8 PD10/TD1 (io), U9 PD14/TF1 (io), V6 PD3/RD0 (io), V7 PD5/RF0 (io), V8 PD12/TK1/PCK0 (io), V9 PD17/CTS1 (io)
part E pins: F4 PE1/LCDMOD (io), F5 PE3/LCDVSYNC (io), G3 PE6/LCDDEN (io), G4 PE0/LCDPWR/PCK0 (io), G5 PE2/LCDCC (io), G6 PE8/LCDD1/LCDD3 (io), G7 PE4/LCDHSYNC (io), G8 PE11/LCDD4/LCDD6 (io), H4 PE13/LCDD6/LCDD10 (io), H5 PE5/LCDDOTCK (io), H6 PE7/LCDD0/LCDD2 (io), H7 PE9/LCDD2/LCDD4 (io), H8 PE10/LCDD3/LCDD5 (io), J1 PE19/LCDD12/LCDD18 (io), J2 PE16/LCDD9/LCDD13 (io), J3 PE14/LCDD7/LCDD11 (io), J4 PE15/LCDD8/LCDD12 (io), J5 PE12/LCDD5/LCDD7 (io), J6 PE17/LCDD10/LCDD14 (io), J7 PE18/LCDD11/LCDD15 (io), J8 PE20/LCDD13/LCDD19 (io), K1 PE21/LCDD14/LCDD20 (io), K2 PE23/LCDD16/LCDD22 (io), K3 PE26/LCDD19 (io), K4 PE22/LCDD15/LCDD21 (io), K5 PE24/LCDD17/LCDD23 (io), K6 PE25/LCDD18 (io), K7 PE27/LCDD20 (io), K8 PE28/LCDD21 (io), L2 PE30/LCDD23 (io), L3 PE29/LCDD22 (io), L4 PE31/PWM2/PCK1 (io)
part F pins: A9 EBI1_NBS3/NWR3/CFIOW (out), A10 EBI1_NCS0 (out), A11 EBI1_DQS0 (out), A12 EBI1_RAS (out), A13 EBI1_SDCK (out), A14 EBI1_NSDCK (out), A15 EBI1_D7 (io), A17 EBI1_D0 (io), A18 EBI1_A14 (out), B9 EBI1_SDA10 (out), B10 EBI1_BA1/A17 (out), B11 EBI1_DQM0 (out), B12 EBI1_SDCKE (out), B13 EBI1_D12 (io), B14 EBI1_D8 (io), B15 EBI1_D4 (io), B16 EBI1_D3 (io), B17 EBI1_A15 (out), B18 EBI1_A13 (out), C9 EBI1_NWE/NWR0/CFWE (out), C10 EBI1_BA0/A16 (out), C11 EBI1_CAS (out), C12 EBI1_D15 (io), C13 EBI1_D10 (io), C14 EBI1_D6 (io), C15 EBI1_D2 (io), C17 EBI1_A18 (out), C18 EBI1_A12 (out), D9 EBI1_NBS1/NWR1/CFIOR (out), D10 EBI1_NANDOE (out), D11 EBI1_DQM1 (out), D12 EBI1_D14 (io), D13 EBI1_D9 (io), D14 EBI1_D5 (io), D15 EBI1_D1 (io), D17 EBI1_A11 (out), D18 EBI1_A10 (out), E10 EBI1_NANDWE (out), E11 EBI1_DQS1 (out), E12 EBI1_D13 (io), E13 EBI1_D11 (io), E14 EBI1_A4 (out), E15 EBI1_A8 (out), E16 EBI1_A9 (out), E17 EBI1_A7 (out), F10 EBI1_NCS1/SDCS (out), F11 EBI1_NRD/CFOE (out), F12 EBI1_SDWE (out), F13 EBI1_NBS0/A0 (out), F14 EBI1_NBS2/NWR2/A1 (out), F15 EBI1_A3 (out), F16 EBI1_A6 (out), F17 EBI1_A5 (out), F18 EBI1_A2 (out)
part G pins: A16 EBI0_DDR_VREF (power), G14 EBI0_DDR_DQM0 (out), G15 EBI0_DDR_DQS1 (out), G16 EBI0_DDR_BA1 (out), G17 EBI0_DDR_BA0 (out), G18 EBI0_DDR_DQS0 (out), H14 EBI0_DDR_CS (out), H15 EBI0_DDR_WE (out), H16 EBI0_DDR_DQM1 (out), H17 EBI0_DDR_CAS (out), H18 EBI0_DDR_NCLK (out), J14 EBI0_DDR_A12 (out), J15 EBI0_DDR_A13 (out), J16 EBI0_DDR_CKE (out), J17 EBI0_DDR_RAS (out), J18 EBI0_DDR_CLK (out), K14 EBI0_DDR_A7 (out), K15 EBI0_DDR_A8 (out), K16 EBI0_DDR_A9 (out), K17 EBI0_DDR_A11 (out), K18 EBI0_DDR_A10 (out), L14 EBI0_DDR_A1 (out), L15 EBI0_DDR_A3 (out), L16 EBI0_DDR_A4 (out), L17 EBI0_DDR_A6 (out), L18 EBI0_DDR_A5 (out), M15 EBI0_DDR_D14 (io), M16 EBI0_DDR_D15 (io), M17 EBI0_DDR_A0 (out), M18 EBI0_DDR_A2 (out), N14 EBI0_DDR_D13 (io), N15 EBI0_DDR_D8 (io), N16 EBI0_DDR_D9 (io), N17 EBI0_DDR_D11 (io), N18 EBI0_DDR_D12 (io), P14 EBI0_DDR_D7 (io), P15 EBI0_DDR_D3 (io), P16 EBI0_DDR_D4 (io), P17 EBI0_DDR_D5 (io), P18 EBI0_DDR_D10 (io), R14 EBI0_DDR_D6 (io), R15 EBI0_DDR_D1 (io), R16 EBI0_DDR_D0 (io), T14 EBI0_DDR_D2 (io)
part H pins: C1 XIN32 (in), C2 GNDANA (power), C3 WKUP (in), C16 GNDIOM (power), D1 XOUT32 (in), D3 GNDBU (power), D4 VDDBU (power), D16 VDDIOM1 (power), E2 TSADVREF (power), E3 VDDANA (power), E4 JTAGSEL (in), E5 TST (in), E18 VDDCORE (power), F3 SHDN (out), F6 VDDIOM1 (power), G9 GNDCORE (power), G10 VDDIOM1 (power), G11 VDDIOM1 (power), G12 VDDCORE (power), G13 VDDCORE (power), H3 VDDIOP1 (power), H9 GNDCORE (power), H10 GNDIOP (power), H11 VDDCORE (power), H12 GNDIOM (power), H13 GNDIOM (power), J9 GNDCORE (power), J10 GNDCORE (power), J11 GNDIOP (power), J12 GNDIOM (power), J13 GNDIOM (power), K9 VDDIOP0 (power), K10 VDDIOP0 (power), K11 GNDIOM (power), K12 GNDIOM (power), K13 VDDIOM0 (power), L12 VDDIOM0 (power), L13 VDDIOM0 (power), M10 NRST (io), M14 VDDIOM0 (power), N10 NTRST (in), P10 TMS (in), P11 VDDPLLA (power), R10 TDI (in), R11 RTCK (out), R17 HHSDMA (io), R18 HFSDMA (io), T11 BMS (in), T17 HHSDPA (io), T18 HFSDPA (io), U10 TCK (in), U11 VDDOSC (power), U12 GNDOSC (power), U15 DHSDP/HHSDPB (in), U16 DHSDM/HHSDMB (in), U17 GNDUTMI (power), U18 VDDUTMIC (power), V10 TDO (out), V11 XOUT (in), V12 XIN (in), V13 VDDPLLUTMI (power), V14 VDDIOP2 (power), V15 DFSDP/HFSDPB (io), V16 DFSDM/HFSDMB (in), V17 VDDUTMII (power), V18 VBG (in)
1 alternate drawing of the same symbol

## UU-ATMEGA8A-AU
designator U?, comment ATMEGA8A-AU
集成电路-MCU; 货品?: 341044
footprint U-TQFP-32 (Footprint not found)
pins: 1 PD3 (INT1) (io), 2 PD4 (XCK/T0) (io), 3 GND, 4 VCC (power), 5 GND (power), 6 VCC, 7 PB6 (XTAL1/TOSC1), 8 PB7 (XTAL2/TOSC2), 9 PD5 (T1), 10 PD6 (AIN0), 11 PD7 (AIN1), 12 PB0 (ICP), 13 PB1 (OC1A) (io), 14 PB2 (~{SS}/OC1B) (io), 15 PB3 (MOSI/OC2) (io), 16 PB4 (MISO) (io), 17 PB5 (SCK) (io), 18 AVCC, 19 ADC6 (in), 20 AREF (in), 21 GND, 22 ADC7 (in), 23 (ADC0) PC0 (io), 24 (ADC1) PC1 (io), 25 (ADC2) PC2 (io), 26 (ADC3) PC3 (io), 27 (ADC4/SDA) PC4 (io), 28 (ADC5/SCL) PC5 (io), 29 (~{RESET}) PC6 (io), 30 PD0 (RXD) (io), 31 PD1 (TXD) (io), 32 PD2(INT0) (io)

## UU-ATMEGA16A-AU
designator U?, comment ATMEGA16A-AU
集成电路-MCU; 货品?: 341045
footprint U-TQFP-44 (Footprint not found)
pins: 1 PB5 (MOSI) (io), 2 PB6 (MISO) (io), 3 PB7 (SCK) (io), 4 ~{RESET} (in), 5 VCC, 6 GND, 7 X2 (in), 8 X1 (in), 9 PD0 (RXD) (io), 10 PD1 (TXD) (io), 11 PD2 (INT0) (io), 12 PD3 (INT1) (io), 13 PD4 (OC1B) (io), 14 PD5 (OC1A) (io), 15 PD6 (ICP) (io), 16 PD7 (TOSC2) (io), 17 VCC, 18 GND, 19 PC0 (io), 20 PC1 (io), 21 PC2 (io), 22 PC3 (io), 23 PC4 (io), 24 PC5 (io), 25 (TOSC1) PC6 (io), 26 (TOSC2) PC7 (io), 27 AVCC (io), 28 AGND (in), 29 AREF (io), 30 (ADC7) PA7 (io), 31 (ADC6) PA6 (io), 32 (ADC5) PA5 (io), 33 (ADC4) PA4 (io), 34 (ADC3) PA3 (io), 35 (ADC2) PA2 (io), 36 (ADC1) PA1 (io), 37 (ADC0) PA0 (io), 38 VCC (power), 39 GND (power), 40 PB0 (T0) (io), 41 PB1 (T1) (io), 42 PB2 (AIN0) (io), 43 PB3 (AIN1) (io), 44 PB4 (~{SS}) (io)